# Altium schematic symbol library SparkFun-Switches.SCHLIB: 119 symbols (part 1 of 4)
Pins are listed as number, name and electrical type; pins without a type are passive.

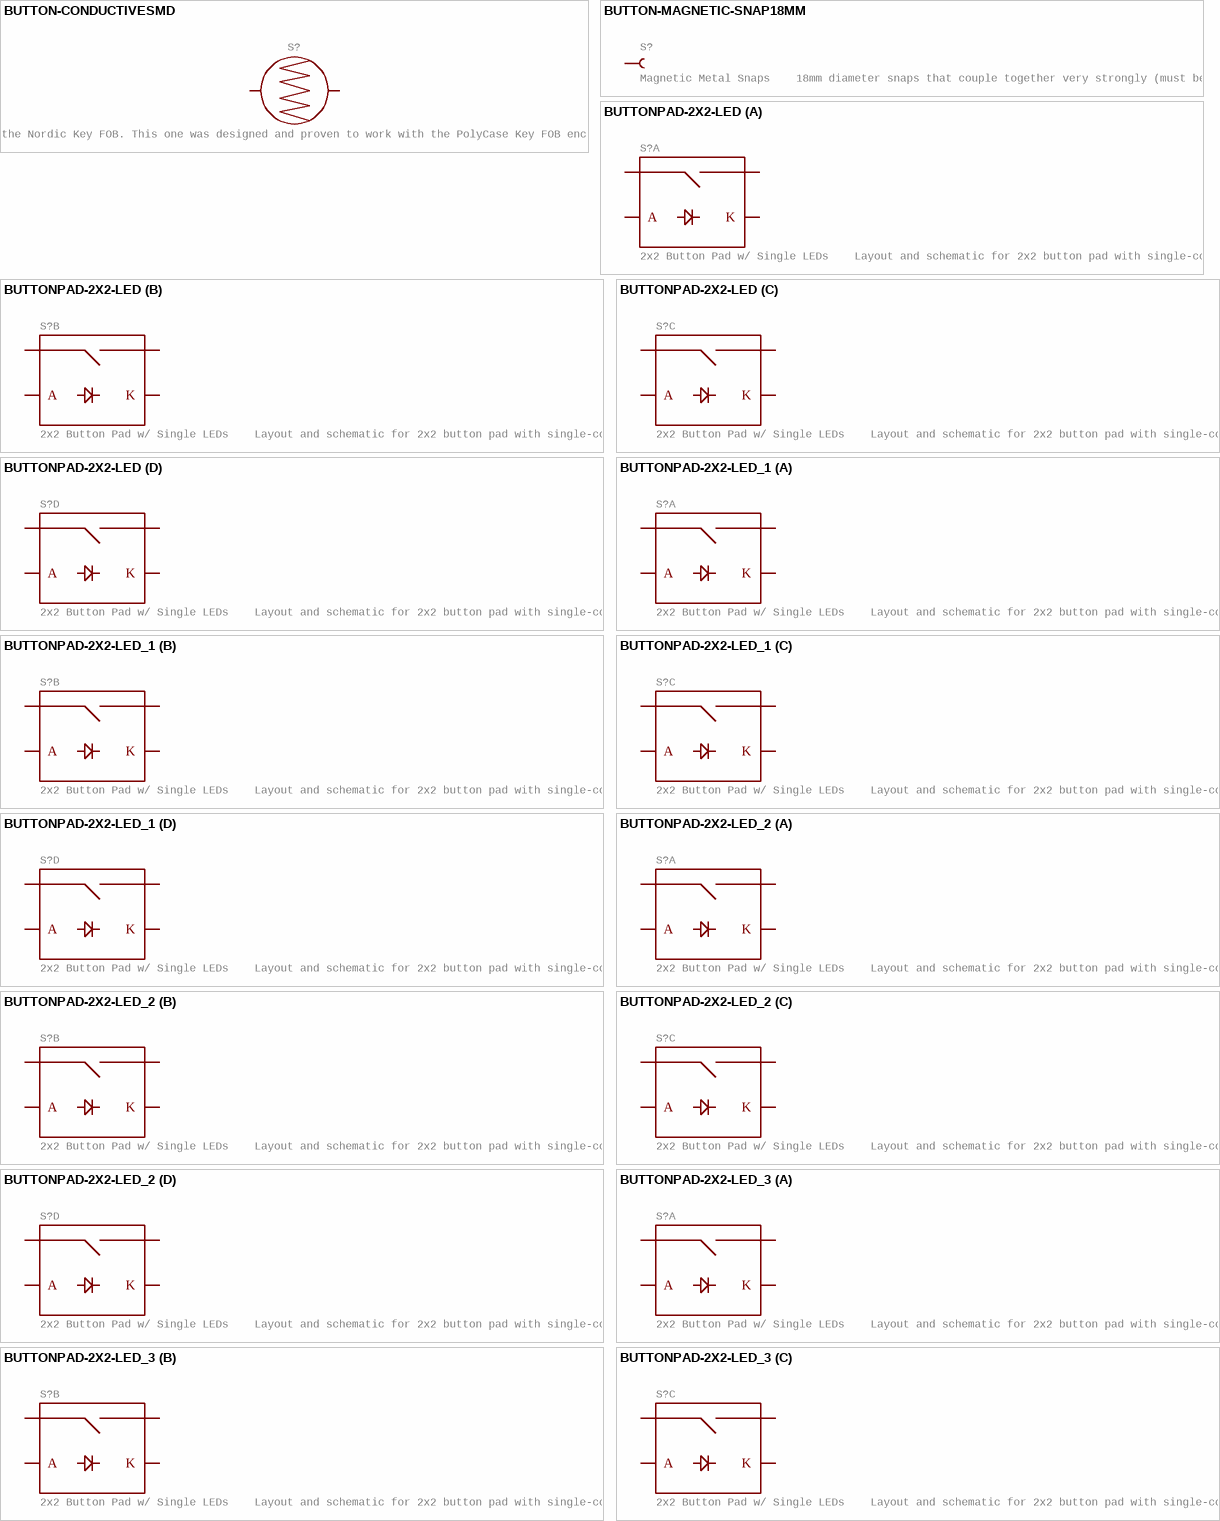
[diagram p0: symbols BUTTON-CONDUCTIVESMD to BUTTONPAD-2X2-LED_3]

## BUTTON-CONDUCTIVESMD
designator S?, comment Conductive Button    Used with rubber key pads on the Nordic Key FOB. This one was designed and proven to work with the PolyCase Key FOB enclosures. SparkFun Products  Nordic Fob (WRL-08602)
GateName_1: G$1; SymbolName_1: BUTTON-CONDUCTIVE; DeviceName: SMD; LibraryName: SparkFun-Switches; DeviceSetName: BUTTON-CONDUCTIVE; Package: BUTTON-CONDUCTIVE
footprint BUTTON-CONDUCTIVE
pins: 1, 2

## BUTTON-MAGNETIC-SNAP18MM
designator S?, comment Magnetic Metal Snaps    18mm diameter snaps that couple together very strongly (must be pried apart), rotate freely on the axis, and are electrically conductive. Overall connection resistance is less than 200 miliOhm. Snaps will couple when closer than 10mm. SparkFun Products  Magnetic Snap 18mm (WRL-08682)
GateName_1: G$1; SymbolName_1: BUTTON-MAGNETIC-SNAP; SF_SKU: DEV-08682; DeviceName: 18MM; LibraryName: SparkFun-Switches; DeviceSetName: BUTTON-MAGNETIC-SNAP; Package: BUTTON-18MM
footprint BUTTON-18MM
pins: 1 (io)

## BUTTONPAD-2X2-LED
designator S?, comment 2x2 Button Pad w/ Single LEDs    Layout and schematic for 2x2 button pad with single-color LEDs under each button. For use with the Button Pad 2x2 - LED Compatible and Button Pad 2x2 Top Bezel.   Any single-color 5mm LED should be compatible. SparkFun Products  SparkFun Simon Says - Through-Hole Soldering Kit (KIT-10547)  Button Pad 2x2 - Breakout PCB (COM-09277)
GateName_1: C1; SymbolName_1: BUTTONPAD-LED; GateName_2: C2; GateName_3: C3; GateName_4: C4; DeviceSetName: BUTTONPAD-2X2-LED; PROD_ID: COMP-08481; SF_SKU: COM-07836; SymbolName_2: BUTTONPAD-LED; SymbolName_3: BUTTONPAD-LED; SymbolName_4: BUTTONPAD-LED; LibraryName: SparkFun-Switches; Package: BUTTONPAD-2X2-SINGLE-LED
footprint BUTTONPAD-2X2-SINGLE-LED
part A pins: A1 A (io), K1 K (io), SIG1 (io), SIG2 (io)
part B pins: A2 A (io), K2 K (io), SIG3 SIG1 (io), SIG4 SIG2 (io)
part C pins: A3 A (io), K3 K (io), SIG5 SIG1 (io), SIG6 SIG2 (io)
part D pins: A4 A (io), K4 K (io), SIG7 SIG1 (io), SIG8 SIG2 (io)

## BUTTONPAD-2X2-LED_1
designator S?, comment 2x2 Button Pad w/ Single LEDs    Layout and schematic for 2x2 button pad with single-color LEDs under each button. For use with the Button Pad 2x2 - LED Compatible and Button Pad 2x2 Top Bezel.   Any single-color 5mm LED should be compatible. SparkFun Products  SparkFun Simon Says - Through-Hole Soldering Kit (KIT-10547)  Button Pad 2x2 - Breakout PCB (COM-09277)
GateName_1: C1; SymbolName_1: BUTTONPAD-LED; GateName_2: C2; GateName_3: C3; GateName_4: C4; DeviceSetName: BUTTONPAD-2X2-LED; PROD_ID: COMP-08481; SF_SKU: COM-07836; SymbolName_2: BUTTONPAD-LED; SymbolName_3: BUTTONPAD-LED; SymbolName_4: BUTTONPAD-LED; LibraryName: SparkFun-Switches; Package: BUTTONPAD-2X2-SINGLE-LED
footprint BUTTONPAD-2X2-SINGLE-LED
part A pins: A1 A (io), K1 K (io), SIG1 (io), SIG2 (io)
part B pins: A2 A (io), K2 K (io), SIG3 SIG1 (io), SIG4 SIG2 (io)
part C pins: A3 A (io), K3 K (io), SIG5 SIG1 (io), SIG6 SIG2 (io)
part D pins: A4 A (io), K4 K (io), SIG7 SIG1 (io), SIG8 SIG2 (io)

## BUTTONPAD-2X2-LED_2
designator S?, comment 2x2 Button Pad w/ Single LEDs    Layout and schematic for 2x2 button pad with single-color LEDs under each button. For use with the Button Pad 2x2 - LED Compatible and Button Pad 2x2 Top Bezel.   Any single-color 5mm LED should be compatible. SparkFun Products  SparkFun Simon Says - Through-Hole Soldering Kit (KIT-10547)  Button Pad 2x2 - Breakout PCB (COM-09277)
GateName_1: C1; SymbolName_1: BUTTONPAD-LED; GateName_2: C2; GateName_3: C3; GateName_4: C4; DeviceSetName: BUTTONPAD-2X2-LED; PROD_ID: COMP-08481; SF_SKU: COM-07836; SymbolName_2: BUTTONPAD-LED; SymbolName_3: BUTTONPAD-LED; SymbolName_4: BUTTONPAD-LED; LibraryName: SparkFun-Switches; Package: BUTTONPAD-2X2-SINGLE-LED
footprint BUTTONPAD-2X2-SINGLE-LED
part A pins: A1 A (io), K1 K (io), SIG1 (io), SIG2 (io)
part B pins: A2 A (io), K2 K (io), SIG3 SIG1 (io), SIG4 SIG2 (io)
part C pins: A3 A (io), K3 K (io), SIG5 SIG1 (io), SIG6 SIG2 (io)
part D pins: A4 A (io), K4 K (io), SIG7 SIG1 (io), SIG8 SIG2 (io)

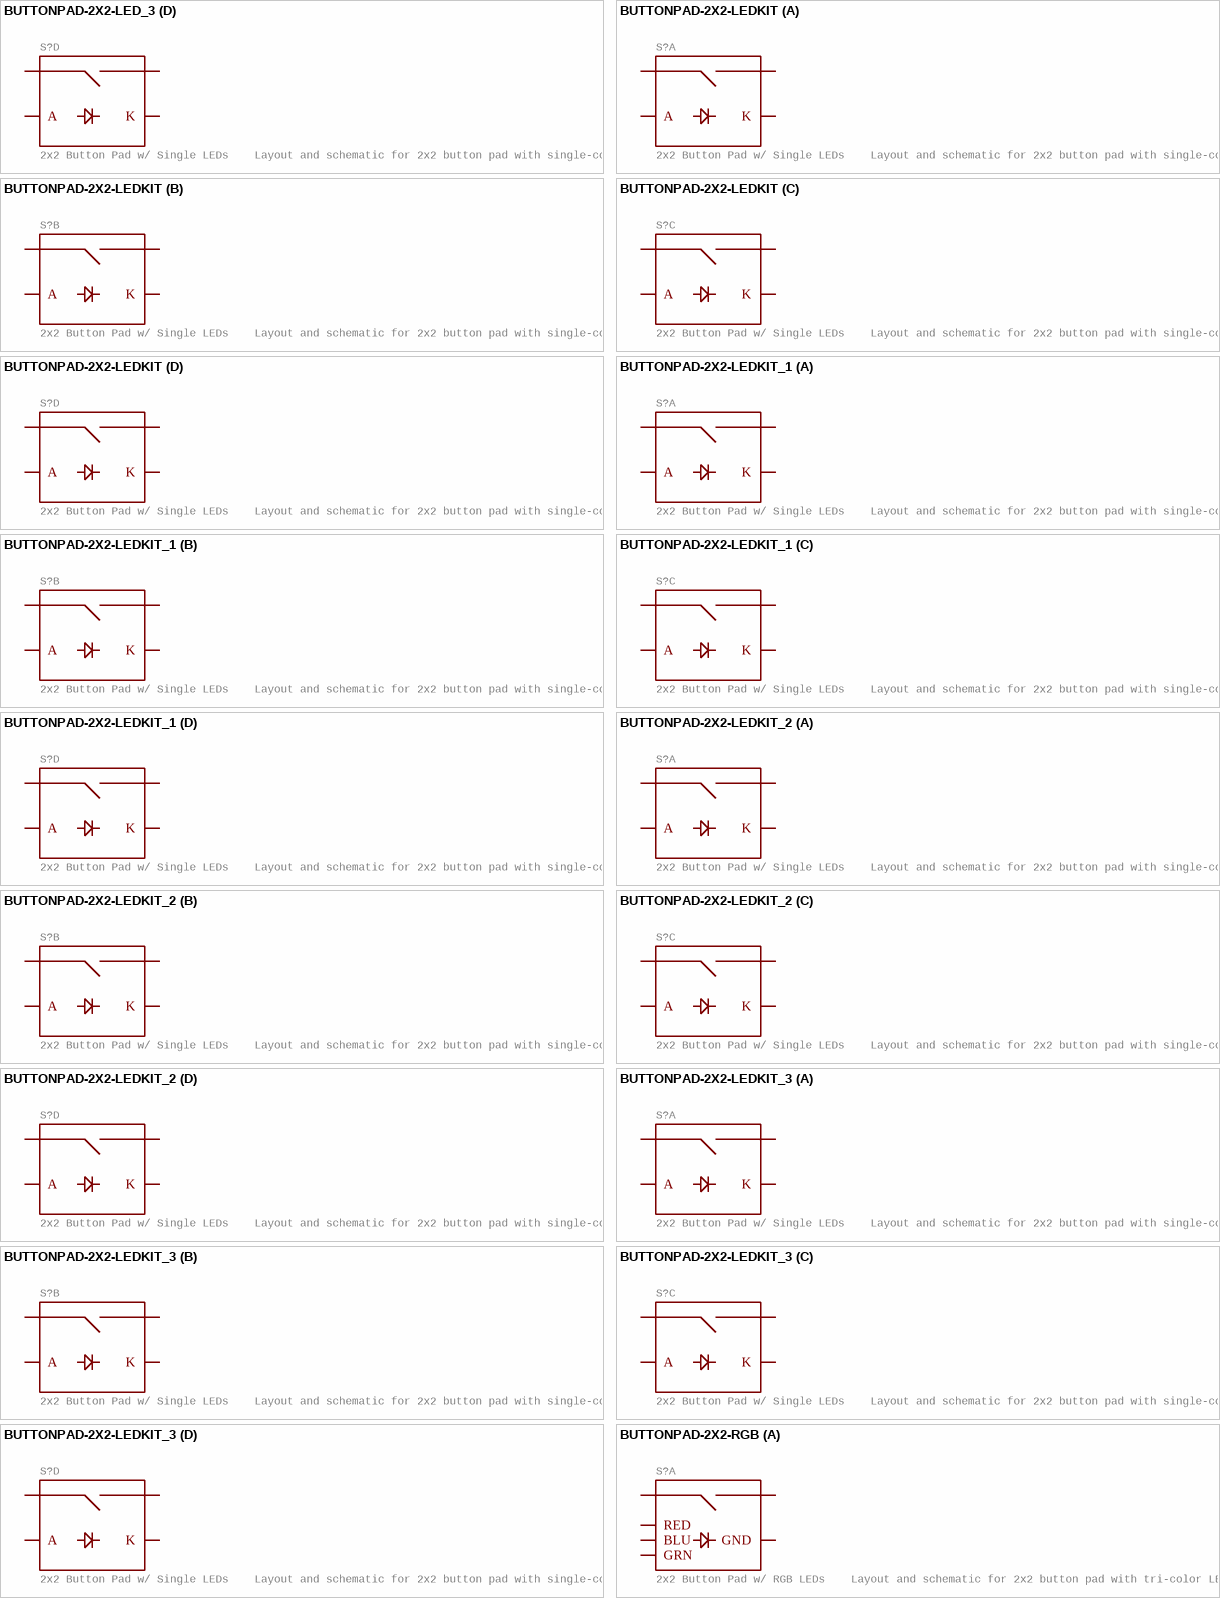
[diagram p1: symbols BUTTONPAD-2X2-LED_3 to BUTTONPAD-2X2-RGB]

## BUTTONPAD-2X2-LED_3
designator S?, comment 2x2 Button Pad w/ Single LEDs    Layout and schematic for 2x2 button pad with single-color LEDs under each button. For use with the Button Pad 2x2 - LED Compatible and Button Pad 2x2 Top Bezel.   Any single-color 5mm LED should be compatible. SparkFun Products  SparkFun Simon Says - Through-Hole Soldering Kit (KIT-10547)  Button Pad 2x2 - Breakout PCB (COM-09277)
GateName_1: C1; SymbolName_1: BUTTONPAD-LED; GateName_2: C2; GateName_3: C3; GateName_4: C4; DeviceSetName: BUTTONPAD-2X2-LED; PROD_ID: COMP-08481; SF_SKU: COM-07836; SymbolName_2: BUTTONPAD-LED; SymbolName_3: BUTTONPAD-LED; SymbolName_4: BUTTONPAD-LED; LibraryName: SparkFun-Switches; Package: BUTTONPAD-2X2-SINGLE-LED
footprint BUTTONPAD-2X2-SINGLE-LED
part A pins: A1 A (io), K1 K (io), SIG1 (io), SIG2 (io)
part B pins: A2 A (io), K2 K (io), SIG3 SIG1 (io), SIG4 SIG2 (io)
part C pins: A3 A (io), K3 K (io), SIG5 SIG1 (io), SIG6 SIG2 (io)
part D pins: A4 A (io), K4 K (io), SIG7 SIG1 (io), SIG8 SIG2 (io)

## BUTTONPAD-2X2-LEDKIT
designator S?, comment 2x2 Button Pad w/ Single LEDs    Layout and schematic for 2x2 button pad with single-color LEDs under each button. For use with the Button Pad 2x2 - LED Compatible and Button Pad 2x2 Top Bezel.   Any single-color 5mm LED should be compatible. SparkFun Products  SparkFun Simon Says - Through-Hole Soldering Kit (KIT-10547)  Button Pad 2x2 - Breakout PCB (COM-09277)
GateName_1: C1; SymbolName_1: BUTTONPAD-LED; GateName_2: C2; GateName_3: C3; GateName_4: C4; DeviceSetName: BUTTONPAD-2X2-LED; PROD_ID: COMP-08481; SF_SKU: COM-07836; SymbolName_2: BUTTONPAD-LED; SymbolName_3: BUTTONPAD-LED; SymbolName_4: BUTTONPAD-LED; DeviceName: KIT; LibraryName: SparkFun-Switches; Package: BUTTONPAD-2X2-SINGLE-LED-KIT
footprint BUTTONPAD-2X2-SINGLE-LED-KIT
part A pins: A1 A (io), K1 K (io), SIG1 (io), SIG2 (io)
part B pins: A2 A (io), K2 K (io), SIG3 SIG1 (io), SIG4 SIG2 (io)
part C pins: A3 A (io), K3 K (io), SIG5 SIG1 (io), SIG6 SIG2 (io)
part D pins: A4 A (io), K4 K (io), SIG7 SIG1 (io), SIG8 SIG2 (io)

## BUTTONPAD-2X2-LEDKIT_1
designator S?, comment 2x2 Button Pad w/ Single LEDs    Layout and schematic for 2x2 button pad with single-color LEDs under each button. For use with the Button Pad 2x2 - LED Compatible and Button Pad 2x2 Top Bezel.   Any single-color 5mm LED should be compatible. SparkFun Products  SparkFun Simon Says - Through-Hole Soldering Kit (KIT-10547)  Button Pad 2x2 - Breakout PCB (COM-09277)
GateName_1: C1; SymbolName_1: BUTTONPAD-LED; GateName_2: C2; GateName_3: C3; GateName_4: C4; DeviceSetName: BUTTONPAD-2X2-LED; PROD_ID: COMP-08481; SF_SKU: COM-07836; SymbolName_2: BUTTONPAD-LED; SymbolName_3: BUTTONPAD-LED; SymbolName_4: BUTTONPAD-LED; DeviceName: KIT; LibraryName: SparkFun-Switches; Package: BUTTONPAD-2X2-SINGLE-LED-KIT
footprint BUTTONPAD-2X2-SINGLE-LED-KIT
part A pins: A1 A (io), K1 K (io), SIG1 (io), SIG2 (io)
part B pins: A2 A (io), K2 K (io), SIG3 SIG1 (io), SIG4 SIG2 (io)
part C pins: A3 A (io), K3 K (io), SIG5 SIG1 (io), SIG6 SIG2 (io)
part D pins: A4 A (io), K4 K (io), SIG7 SIG1 (io), SIG8 SIG2 (io)

## BUTTONPAD-2X2-LEDKIT_2
designator S?, comment 2x2 Button Pad w/ Single LEDs    Layout and schematic for 2x2 button pad with single-color LEDs under each button. For use with the Button Pad 2x2 - LED Compatible and Button Pad 2x2 Top Bezel.   Any single-color 5mm LED should be compatible. SparkFun Products  SparkFun Simon Says - Through-Hole Soldering Kit (KIT-10547)  Button Pad 2x2 - Breakout PCB (COM-09277)
GateName_1: C1; SymbolName_1: BUTTONPAD-LED; GateName_2: C2; GateName_3: C3; GateName_4: C4; DeviceSetName: BUTTONPAD-2X2-LED; PROD_ID: COMP-08481; SF_SKU: COM-07836; SymbolName_2: BUTTONPAD-LED; SymbolName_3: BUTTONPAD-LED; SymbolName_4: BUTTONPAD-LED; DeviceName: KIT; LibraryName: SparkFun-Switches; Package: BUTTONPAD-2X2-SINGLE-LED-KIT
footprint BUTTONPAD-2X2-SINGLE-LED-KIT
part A pins: A1 A (io), K1 K (io), SIG1 (io), SIG2 (io)
part B pins: A2 A (io), K2 K (io), SIG3 SIG1 (io), SIG4 SIG2 (io)
part C pins: A3 A (io), K3 K (io), SIG5 SIG1 (io), SIG6 SIG2 (io)
part D pins: A4 A (io), K4 K (io), SIG7 SIG1 (io), SIG8 SIG2 (io)

## BUTTONPAD-2X2-LEDKIT_3
designator S?, comment 2x2 Button Pad w/ Single LEDs    Layout and schematic for 2x2 button pad with single-color LEDs under each button. For use with the Button Pad 2x2 - LED Compatible and Button Pad 2x2 Top Bezel.   Any single-color 5mm LED should be compatible. SparkFun Products  SparkFun Simon Says - Through-Hole Soldering Kit (KIT-10547)  Button Pad 2x2 - Breakout PCB (COM-09277)
GateName_1: C1; SymbolName_1: BUTTONPAD-LED; GateName_2: C2; GateName_3: C3; GateName_4: C4; DeviceSetName: BUTTONPAD-2X2-LED; PROD_ID: COMP-08481; SF_SKU: COM-07836; SymbolName_2: BUTTONPAD-LED; SymbolName_3: BUTTONPAD-LED; SymbolName_4: BUTTONPAD-LED; DeviceName: KIT; LibraryName: SparkFun-Switches; Package: BUTTONPAD-2X2-SINGLE-LED-KIT
footprint BUTTONPAD-2X2-SINGLE-LED-KIT
part A pins: A1 A (io), K1 K (io), SIG1 (io), SIG2 (io)
part B pins: A2 A (io), K2 K (io), SIG3 SIG1 (io), SIG4 SIG2 (io)
part C pins: A3 A (io), K3 K (io), SIG5 SIG1 (io), SIG6 SIG2 (io)
part D pins: A4 A (io), K4 K (io), SIG7 SIG1 (io), SIG8 SIG2 (io)

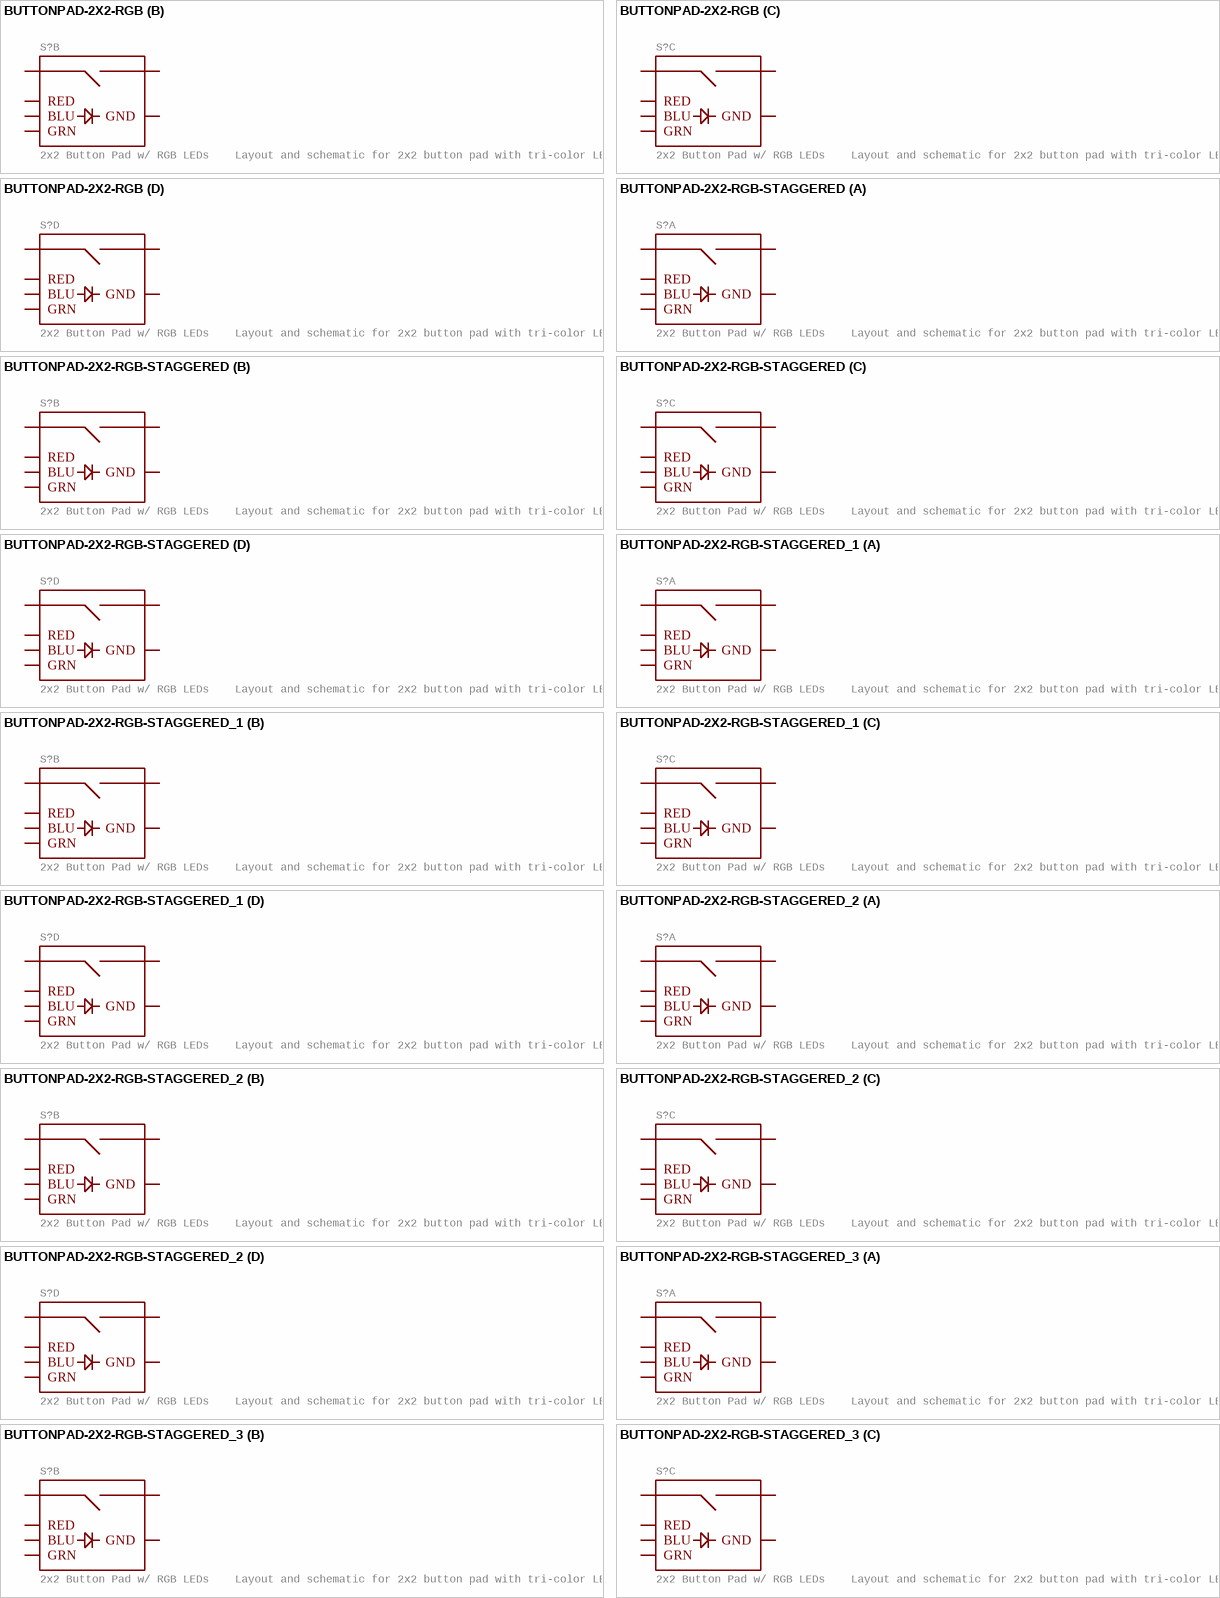
[diagram p2: symbols BUTTONPAD-2X2-RGB to BUTTONPAD-2X2-RGB-STAGGERED_3]

## BUTTONPAD-2X2-RGB
designator S?, comment 2x2 Button Pad w/ RGB LEDs    Layout and schematic for 2x2 button pad with tri-color LEDs under each button. For use with the Button Pad 2x2 - LED Compatible and Button Pad 2x2 Top Bezel.   Any RGB 5mm LED should be compatible. SparkFun Products  SparkFun Simon Says - Through-Hole Soldering Kit (KIT-10547)  Button Pad 2x2 - Breakout PCB (COM-09277)
GateName_1: -C1; SymbolName_1: BUTTONPAD-RGB; GateName_2: -C2; GateName_3: -C3; GateName_4: -C4; DeviceSetName: BUTTONPAD-2X2-RGB; PROD_ID: COMP-08481; SF_SKU: COM-07836; SymbolName_2: BUTTONPAD-RGB; SymbolName_3: BUTTONPAD-RGB; SymbolName_4: BUTTONPAD-RGB; LibraryName: SparkFun-Switches; Package: BUTTONPAD-2X2
footprint BUTTONPAD-2X2
part A pins: BLU1 BLU (io), GND1 GND (io), GRN1 GRN (io), RED1 RED (io), SIG1 (io), SIG2 (io)
part B pins: BLU2 BLU (io), GND2 GND (io), GRN2 GRN (io), RED2 RED (io), SIG3 SIG1 (io), SIG4 SIG2 (io)
part C pins: BLU3 BLU (io), GND3 GND (io), GRN3 GRN (io), RED3 RED (io), SIG5 SIG1 (io), SIG6 SIG2 (io)
part D pins: BLU4 BLU (io), GND4 GND (io), GRN4 GRN (io), RED4 RED (io), SIG7 SIG1 (io), SIG8 SIG2 (io)

## BUTTONPAD-2X2-RGB-STAGGERED
designator S?, comment 2x2 Button Pad w/ RGB LEDs    Layout and schematic for 2x2 button pad with tri-color LEDs under each button. For use with the Button Pad 2x2 - LED Compatible and Button Pad 2x2 Top Bezel.   Any RGB 5mm LED should be compatible. SparkFun Products  SparkFun Simon Says - Through-Hole Soldering Kit (KIT-10547)  Button Pad 2x2 - Breakout PCB (COM-09277)
GateName_1: -C1; SymbolName_1: BUTTONPAD-RGB; GateName_2: -C2; GateName_3: -C3; GateName_4: -C4; DeviceName: -STAGGERED; DeviceSetName: BUTTONPAD-2X2-RGB; PROD_ID: COMP-08481; SF_SKU: COM-07836; SymbolName_2: BUTTONPAD-RGB; SymbolName_3: BUTTONPAD-RGB; SymbolName_4: BUTTONPAD-RGB; LibraryName: SparkFun-Switches; Package: BUTTONPAD-2X2-STAGGERED
footprint BUTTONPAD-2X2-STAGGERED
part A pins: BLU1 BLU (io), GND1 GND (io), GRN1 GRN (io), RED1 RED (io), SIG1 (io), SIG2 (io)
part B pins: BLU2 BLU (io), GND2 GND (io), GRN2 GRN (io), RED2 RED (io), SIG3 SIG1 (io), SIG4 SIG2 (io)
part C pins: BLU3 BLU (io), GND3 GND (io), GRN3 GRN (io), RED3 RED (io), SIG5 SIG1 (io), SIG6 SIG2 (io)
part D pins: BLU4 BLU (io), GND4 GND (io), GRN4 GRN (io), RED4 RED (io), SIG7 SIG1 (io), SIG8 SIG2 (io)

## BUTTONPAD-2X2-RGB-STAGGERED_1
designator S?, comment 2x2 Button Pad w/ RGB LEDs    Layout and schematic for 2x2 button pad with tri-color LEDs under each button. For use with the Button Pad 2x2 - LED Compatible and Button Pad 2x2 Top Bezel.   Any RGB 5mm LED should be compatible. SparkFun Products  SparkFun Simon Says - Through-Hole Soldering Kit (KIT-10547)  Button Pad 2x2 - Breakout PCB (COM-09277)
GateName_1: -C1; SymbolName_1: BUTTONPAD-RGB; GateName_2: -C2; GateName_3: -C3; GateName_4: -C4; DeviceName: -STAGGERED; DeviceSetName: BUTTONPAD-2X2-RGB; PROD_ID: COMP-08481; SF_SKU: COM-07836; SymbolName_2: BUTTONPAD-RGB; SymbolName_3: BUTTONPAD-RGB; SymbolName_4: BUTTONPAD-RGB; LibraryName: SparkFun-Switches; Package: BUTTONPAD-2X2-STAGGERED
footprint BUTTONPAD-2X2-STAGGERED
part A pins: BLU1 BLU (io), GND1 GND (io), GRN1 GRN (io), RED1 RED (io), SIG1 (io), SIG2 (io)
part B pins: BLU2 BLU (io), GND2 GND (io), GRN2 GRN (io), RED2 RED (io), SIG3 SIG1 (io), SIG4 SIG2 (io)
part C pins: BLU3 BLU (io), GND3 GND (io), GRN3 GRN (io), RED3 RED (io), SIG5 SIG1 (io), SIG6 SIG2 (io)
part D pins: BLU4 BLU (io), GND4 GND (io), GRN4 GRN (io), RED4 RED (io), SIG7 SIG1 (io), SIG8 SIG2 (io)

## BUTTONPAD-2X2-RGB-STAGGERED_2
designator S?, comment 2x2 Button Pad w/ RGB LEDs    Layout and schematic for 2x2 button pad with tri-color LEDs under each button. For use with the Button Pad 2x2 - LED Compatible and Button Pad 2x2 Top Bezel.   Any RGB 5mm LED should be compatible. SparkFun Products  SparkFun Simon Says - Through-Hole Soldering Kit (KIT-10547)  Button Pad 2x2 - Breakout PCB (COM-09277)
GateName_1: -C1; SymbolName_1: BUTTONPAD-RGB; GateName_2: -C2; GateName_3: -C3; GateName_4: -C4; DeviceName: -STAGGERED; DeviceSetName: BUTTONPAD-2X2-RGB; PROD_ID: COMP-08481; SF_SKU: COM-07836; SymbolName_2: BUTTONPAD-RGB; SymbolName_3: BUTTONPAD-RGB; SymbolName_4: BUTTONPAD-RGB; LibraryName: SparkFun-Switches; Package: BUTTONPAD-2X2-STAGGERED
footprint BUTTONPAD-2X2-STAGGERED
part A pins: BLU1 BLU (io), GND1 GND (io), GRN1 GRN (io), RED1 RED (io), SIG1 (io), SIG2 (io)
part B pins: BLU2 BLU (io), GND2 GND (io), GRN2 GRN (io), RED2 RED (io), SIG3 SIG1 (io), SIG4 SIG2 (io)
part C pins: BLU3 BLU (io), GND3 GND (io), GRN3 GRN (io), RED3 RED (io), SIG5 SIG1 (io), SIG6 SIG2 (io)
part D pins: BLU4 BLU (io), GND4 GND (io), GRN4 GRN (io), RED4 RED (io), SIG7 SIG1 (io), SIG8 SIG2 (io)

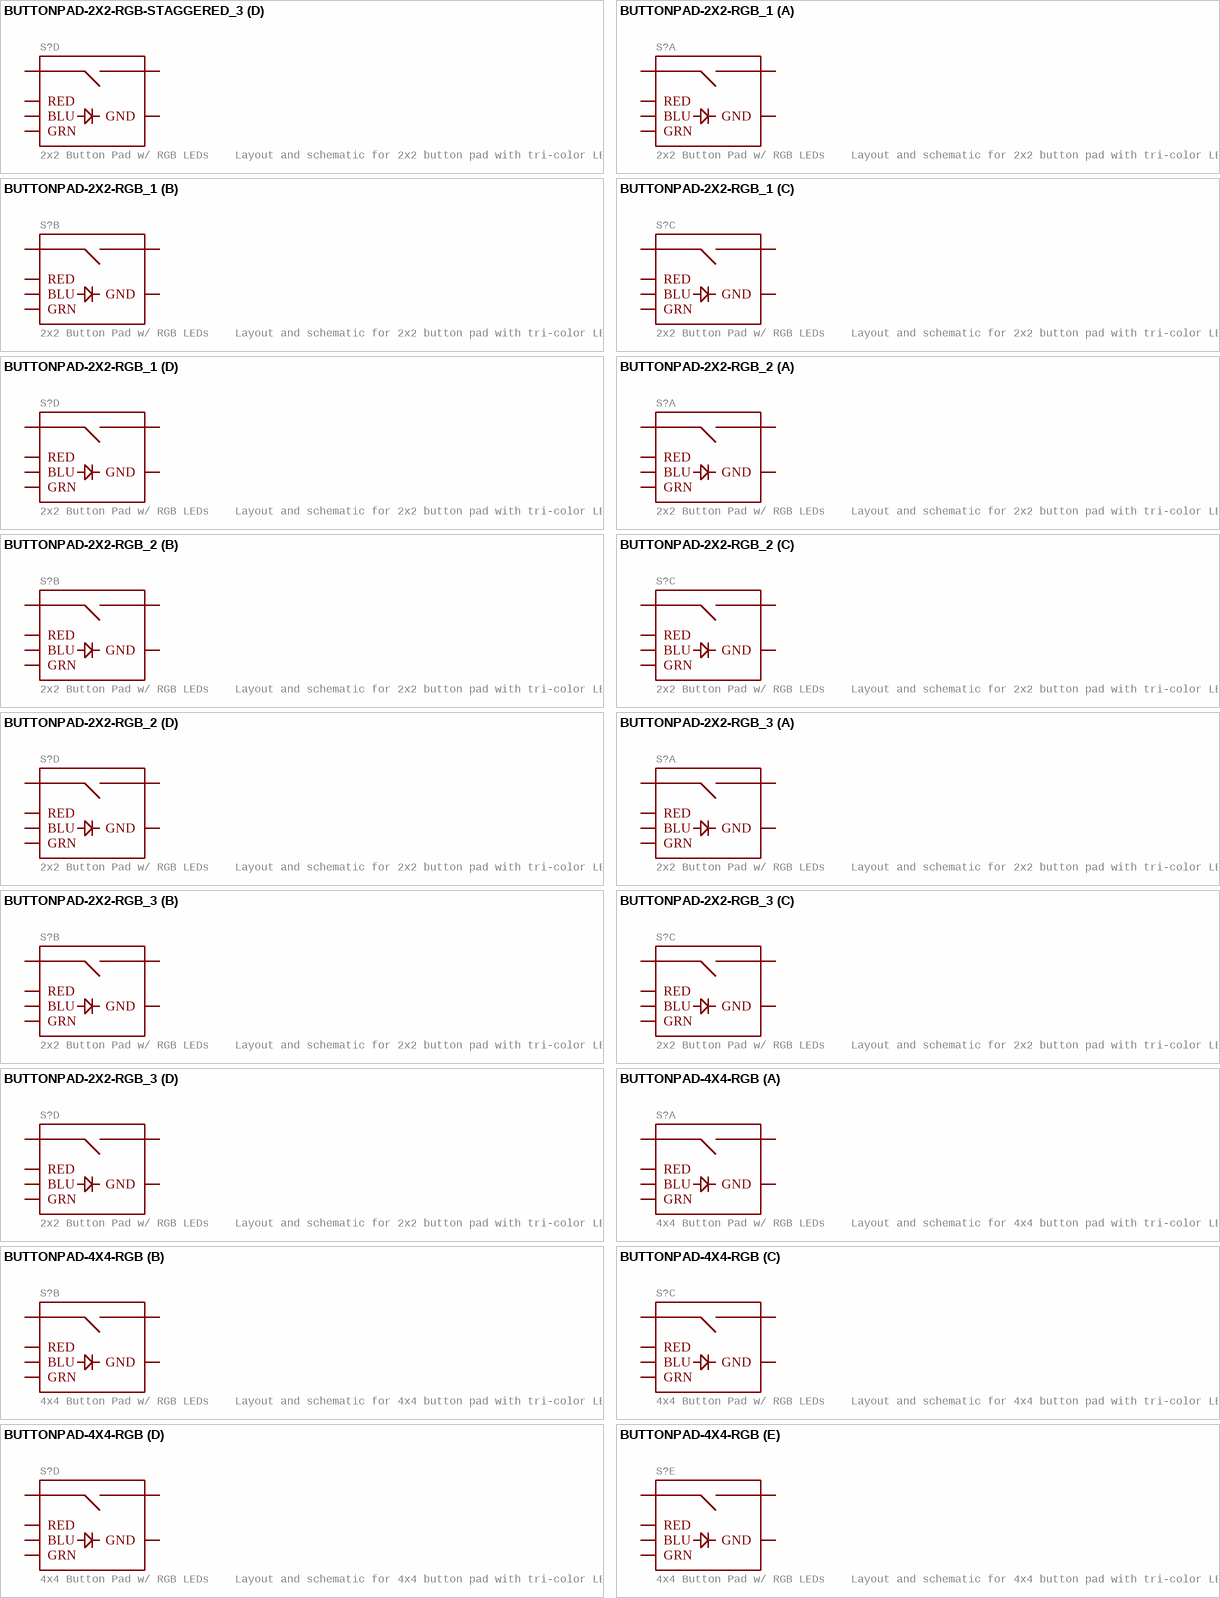
[diagram p3: symbols BUTTONPAD-2X2-RGB-STAGGERED_3 to BUTTONPAD-4X4-RGB]

## BUTTONPAD-2X2-RGB-STAGGERED_3
designator S?, comment 2x2 Button Pad w/ RGB LEDs    Layout and schematic for 2x2 button pad with tri-color LEDs under each button. For use with the Button Pad 2x2 - LED Compatible and Button Pad 2x2 Top Bezel.   Any RGB 5mm LED should be compatible. SparkFun Products  SparkFun Simon Says - Through-Hole Soldering Kit (KIT-10547)  Button Pad 2x2 - Breakout PCB (COM-09277)
GateName_1: -C1; SymbolName_1: BUTTONPAD-RGB; GateName_2: -C2; GateName_3: -C3; GateName_4: -C4; DeviceName: -STAGGERED; DeviceSetName: BUTTONPAD-2X2-RGB; PROD_ID: COMP-08481; SF_SKU: COM-07836; SymbolName_2: BUTTONPAD-RGB; SymbolName_3: BUTTONPAD-RGB; SymbolName_4: BUTTONPAD-RGB; LibraryName: SparkFun-Switches; Package: BUTTONPAD-2X2-STAGGERED
footprint BUTTONPAD-2X2-STAGGERED
part A pins: BLU1 BLU (io), GND1 GND (io), GRN1 GRN (io), RED1 RED (io), SIG1 (io), SIG2 (io)
part B pins: BLU2 BLU (io), GND2 GND (io), GRN2 GRN (io), RED2 RED (io), SIG3 SIG1 (io), SIG4 SIG2 (io)
part C pins: BLU3 BLU (io), GND3 GND (io), GRN3 GRN (io), RED3 RED (io), SIG5 SIG1 (io), SIG6 SIG2 (io)
part D pins: BLU4 BLU (io), GND4 GND (io), GRN4 GRN (io), RED4 RED (io), SIG7 SIG1 (io), SIG8 SIG2 (io)

## BUTTONPAD-2X2-RGB_1
designator S?, comment 2x2 Button Pad w/ RGB LEDs    Layout and schematic for 2x2 button pad with tri-color LEDs under each button. For use with the Button Pad 2x2 - LED Compatible and Button Pad 2x2 Top Bezel.   Any RGB 5mm LED should be compatible. SparkFun Products  SparkFun Simon Says - Through-Hole Soldering Kit (KIT-10547)  Button Pad 2x2 - Breakout PCB (COM-09277)
GateName_1: -C1; SymbolName_1: BUTTONPAD-RGB; GateName_2: -C2; GateName_3: -C3; GateName_4: -C4; DeviceSetName: BUTTONPAD-2X2-RGB; PROD_ID: COMP-08481; SF_SKU: COM-07836; SymbolName_2: BUTTONPAD-RGB; SymbolName_3: BUTTONPAD-RGB; SymbolName_4: BUTTONPAD-RGB; LibraryName: SparkFun-Switches; Package: BUTTONPAD-2X2
footprint BUTTONPAD-2X2
part A pins: BLU1 BLU (io), GND1 GND (io), GRN1 GRN (io), RED1 RED (io), SIG1 (io), SIG2 (io)
part B pins: BLU2 BLU (io), GND2 GND (io), GRN2 GRN (io), RED2 RED (io), SIG3 SIG1 (io), SIG4 SIG2 (io)
part C pins: BLU3 BLU (io), GND3 GND (io), GRN3 GRN (io), RED3 RED (io), SIG5 SIG1 (io), SIG6 SIG2 (io)
part D pins: BLU4 BLU (io), GND4 GND (io), GRN4 GRN (io), RED4 RED (io), SIG7 SIG1 (io), SIG8 SIG2 (io)

## BUTTONPAD-2X2-RGB_2
designator S?, comment 2x2 Button Pad w/ RGB LEDs    Layout and schematic for 2x2 button pad with tri-color LEDs under each button. For use with the Button Pad 2x2 - LED Compatible and Button Pad 2x2 Top Bezel.   Any RGB 5mm LED should be compatible. SparkFun Products  SparkFun Simon Says - Through-Hole Soldering Kit (KIT-10547)  Button Pad 2x2 - Breakout PCB (COM-09277)
GateName_1: -C1; SymbolName_1: BUTTONPAD-RGB; GateName_2: -C2; GateName_3: -C3; GateName_4: -C4; DeviceSetName: BUTTONPAD-2X2-RGB; PROD_ID: COMP-08481; SF_SKU: COM-07836; SymbolName_2: BUTTONPAD-RGB; SymbolName_3: BUTTONPAD-RGB; SymbolName_4: BUTTONPAD-RGB; LibraryName: SparkFun-Switches; Package: BUTTONPAD-2X2
footprint BUTTONPAD-2X2
part A pins: BLU1 BLU (io), GND1 GND (io), GRN1 GRN (io), RED1 RED (io), SIG1 (io), SIG2 (io)
part B pins: BLU2 BLU (io), GND2 GND (io), GRN2 GRN (io), RED2 RED (io), SIG3 SIG1 (io), SIG4 SIG2 (io)
part C pins: BLU3 BLU (io), GND3 GND (io), GRN3 GRN (io), RED3 RED (io), SIG5 SIG1 (io), SIG6 SIG2 (io)
part D pins: BLU4 BLU (io), GND4 GND (io), GRN4 GRN (io), RED4 RED (io), SIG7 SIG1 (io), SIG8 SIG2 (io)

## BUTTONPAD-2X2-RGB_3
designator S?, comment 2x2 Button Pad w/ RGB LEDs    Layout and schematic for 2x2 button pad with tri-color LEDs under each button. For use with the Button Pad 2x2 - LED Compatible and Button Pad 2x2 Top Bezel.   Any RGB 5mm LED should be compatible. SparkFun Products  SparkFun Simon Says - Through-Hole Soldering Kit (KIT-10547)  Button Pad 2x2 - Breakout PCB (COM-09277)
GateName_1: -C1; SymbolName_1: BUTTONPAD-RGB; GateName_2: -C2; GateName_3: -C3; GateName_4: -C4; DeviceSetName: BUTTONPAD-2X2-RGB; PROD_ID: COMP-08481; SF_SKU: COM-07836; SymbolName_2: BUTTONPAD-RGB; SymbolName_3: BUTTONPAD-RGB; SymbolName_4: BUTTONPAD-RGB; LibraryName: SparkFun-Switches; Package: BUTTONPAD-2X2
footprint BUTTONPAD-2X2
part A pins: BLU1 BLU (io), GND1 GND (io), GRN1 GRN (io), RED1 RED (io), SIG1 (io), SIG2 (io)
part B pins: BLU2 BLU (io), GND2 GND (io), GRN2 GRN (io), RED2 RED (io), SIG3 SIG1 (io), SIG4 SIG2 (io)
part C pins: BLU3 BLU (io), GND3 GND (io), GRN3 GRN (io), RED3 RED (io), SIG5 SIG1 (io), SIG6 SIG2 (io)
part D pins: BLU4 BLU (io), GND4 GND (io), GRN4 GRN (io), RED4 RED (io), SIG7 SIG1 (io), SIG8 SIG2 (io)

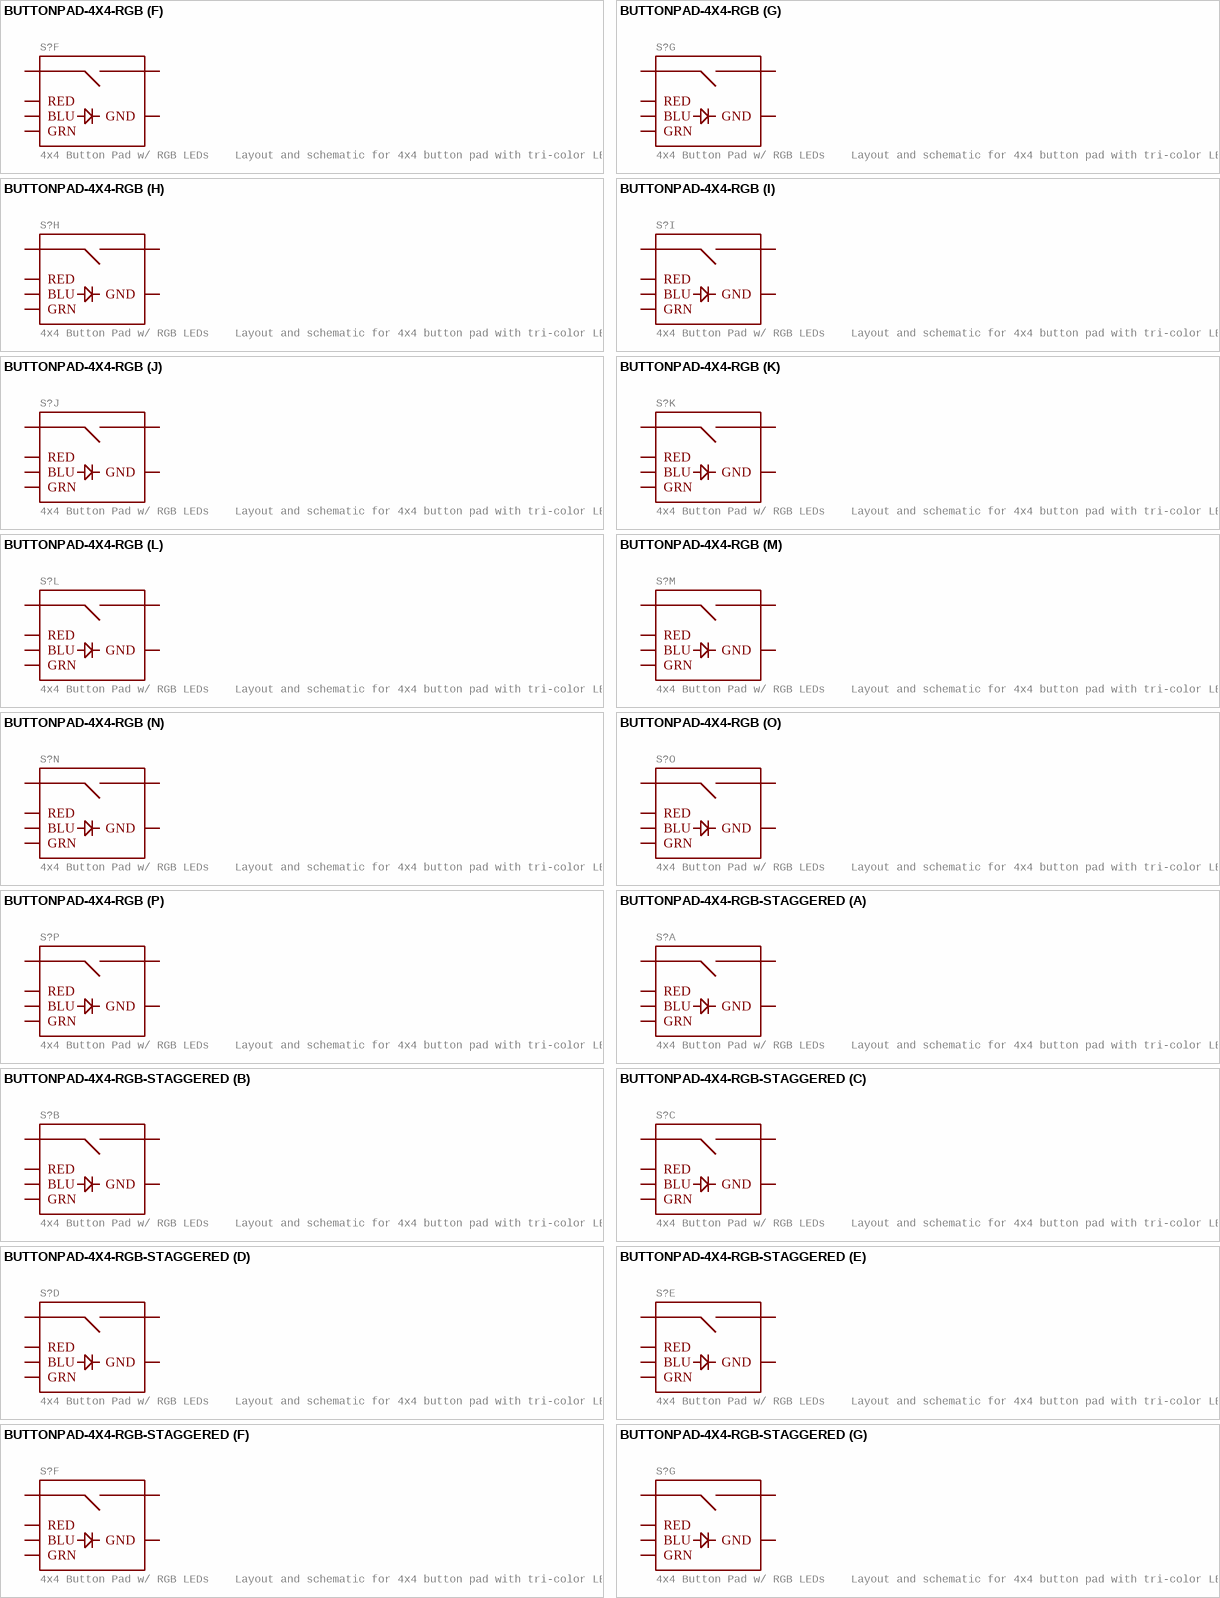
[diagram p4: symbols BUTTONPAD-4X4-RGB to BUTTONPAD-4X4-RGB-STAGGERED]

## BUTTONPAD-4X4-RGB
designator S?, comment 4x4 Button Pad w/ RGB LEDs    Layout and schematic for 4x4 button pad with tri-color LEDs under each button. For use with the 4x Button Pad 2x2 - LED Compatible and 4x Button Pad 2x2 Top Bezel.   Any RGB 5mm LED should be compatible. SparkFun Products  SparkFun Simon Says - Through-Hole Soldering Kit (KIT-10547)  Button Pad 2x2 - Breakout PCB (COM-09277)
GateName_1: G$0; SymbolName_1: BUTTONPAD-RGB; GateName_2: G$1; GateName_3: G$2; GateName_4: G$3; GateName_5: G$4; GateName_6: G$5; GateName_7: G$6; GateName_8: G$7; GateName_9: G$8; GateName_10: G$9; GateName_11: G$10; GateName_12: G$11; GateName_13: G$12; GateName_14: G$13; GateName_15: G$14; GateName_16: G$15; DeviceSetName: BUTTONPAD-4X4-RGB; PROD_ID: COMP-08481; SF_SKU: COM-07836; SymbolName_2: BUTTONPAD-RGB; SymbolName_3: BUTTONPAD-RGB; SymbolName_4: BUTTONPAD-RGB; SymbolName_5: BUTTONPAD-RGB; SymbolName_6: BUTTONPAD-RGB; SymbolName_7: BUTTONPAD-RGB; SymbolName_8: BUTTONPAD-RGB; SymbolName_9: BUTTONPAD-RGB; SymbolName_10: BUTTONPAD-RGB; SymbolName_11: BUTTONPAD-RGB; SymbolName_12: BUTTONPAD-RGB; SymbolName_13: BUTTONPAD-RGB; SymbolName_14: BUTTONPAD-RGB; SymbolName_15: BUTTONPAD-RGB; SymbolName_16: BUTTONPAD-RGB; LibraryName: SparkFun-Switches; Package: BUTTONPAD-4X4
footprint BUTTONPAD-4X4
part A pins: BLU0 BLU (io), GND0 GND (io), GRN0 GRN (io), RED0 RED (io), SIG0 SIG1 (io), SIG1 SIG2 (io)
part B pins: BLU1 BLU (io), GND1 GND (io), GRN1 GRN (io), RED1 RED (io), SIG2 SIG1 (io), SIG3 SIG2 (io)
part C pins: BLU2 BLU (io), GND2 GND (io), GRN2 GRN (io), RED2 RED (io), SIG4 SIG1 (io), SIG5 SIG2 (io)
part D pins: BLU3 BLU (io), GND3 GND (io), GRN3 GRN (io), RED3 RED (io), SIG6 SIG1 (io), SIG7 SIG2 (io)
part E pins: BLU4 BLU (io), GND4 GND (io), GRN4 GRN (io), RED4 RED (io), SIG8 SIG1 (io), SIG9 SIG2 (io)
part F pins: BLU5 BLU (io), GND5 GND (io), GRN6 GRN (io), RED5 RED (io), SIG10 SIG1 (io), SIG11 SIG2 (io)
part G pins: BLU6 BLU (io), GND6 GND (io), GRN5 GRN (io), RED6 RED (io), SIG12 SIG1 (io), SIG13 SIG2 (io)
part H pins: BLU7 BLU (io), GND7 GND (io), GRN7 GRN (io), RED7 RED (io), SIG14 SIG1 (io), SIG15 SIG2 (io)
part I pins: BLU8 BLU (io), GND8 GND (io), GRN8 GRN (io), RED8 RED (io), SIG16 SIG1 (io), SIG17 SIG2 (io)
part J pins: BLU9 BLU (io), GND9 GND (io), GRN9 GRN (io), RED9 RED (io), SIG18 SIG1 (io), SIG19 SIG2 (io)
part K pins: BLU10 BLU (io), GND10 GND (io), GRN10 GRN (io), RED10 RED (io), SIG20 SIG1 (io), SIG21 SIG2 (io)
part L pins: BLU11 BLU (io), GND11 GND (io), GRN11 GRN (io), RED11 RED (io), SIG22 SIG1 (io), SIG23 SIG2 (io)
part M pins: BLU12 BLU (io), GND12 GND (io), GRN12 GRN (io), RED12 RED (io), SIG24 SIG1 (io), SIG25 SIG2 (io)
part N pins: BLU13 BLU (io), GND13 GND (io), GRN13 GRN (io), RED13 RED (io), SIG26 SIG1 (io), SIG27 SIG2 (io)
part O pins: BLU14 BLU (io), GND14 GND (io), GRN14 GRN (io), RED14 RED (io), SIG28 SIG1 (io), SIG29 SIG2 (io)
part P pins: BLU15 BLU (io), GND15 GND (io), GRN15 GRN (io), RED15 RED (io), SIG30 SIG1 (io), SIG31 SIG2 (io)

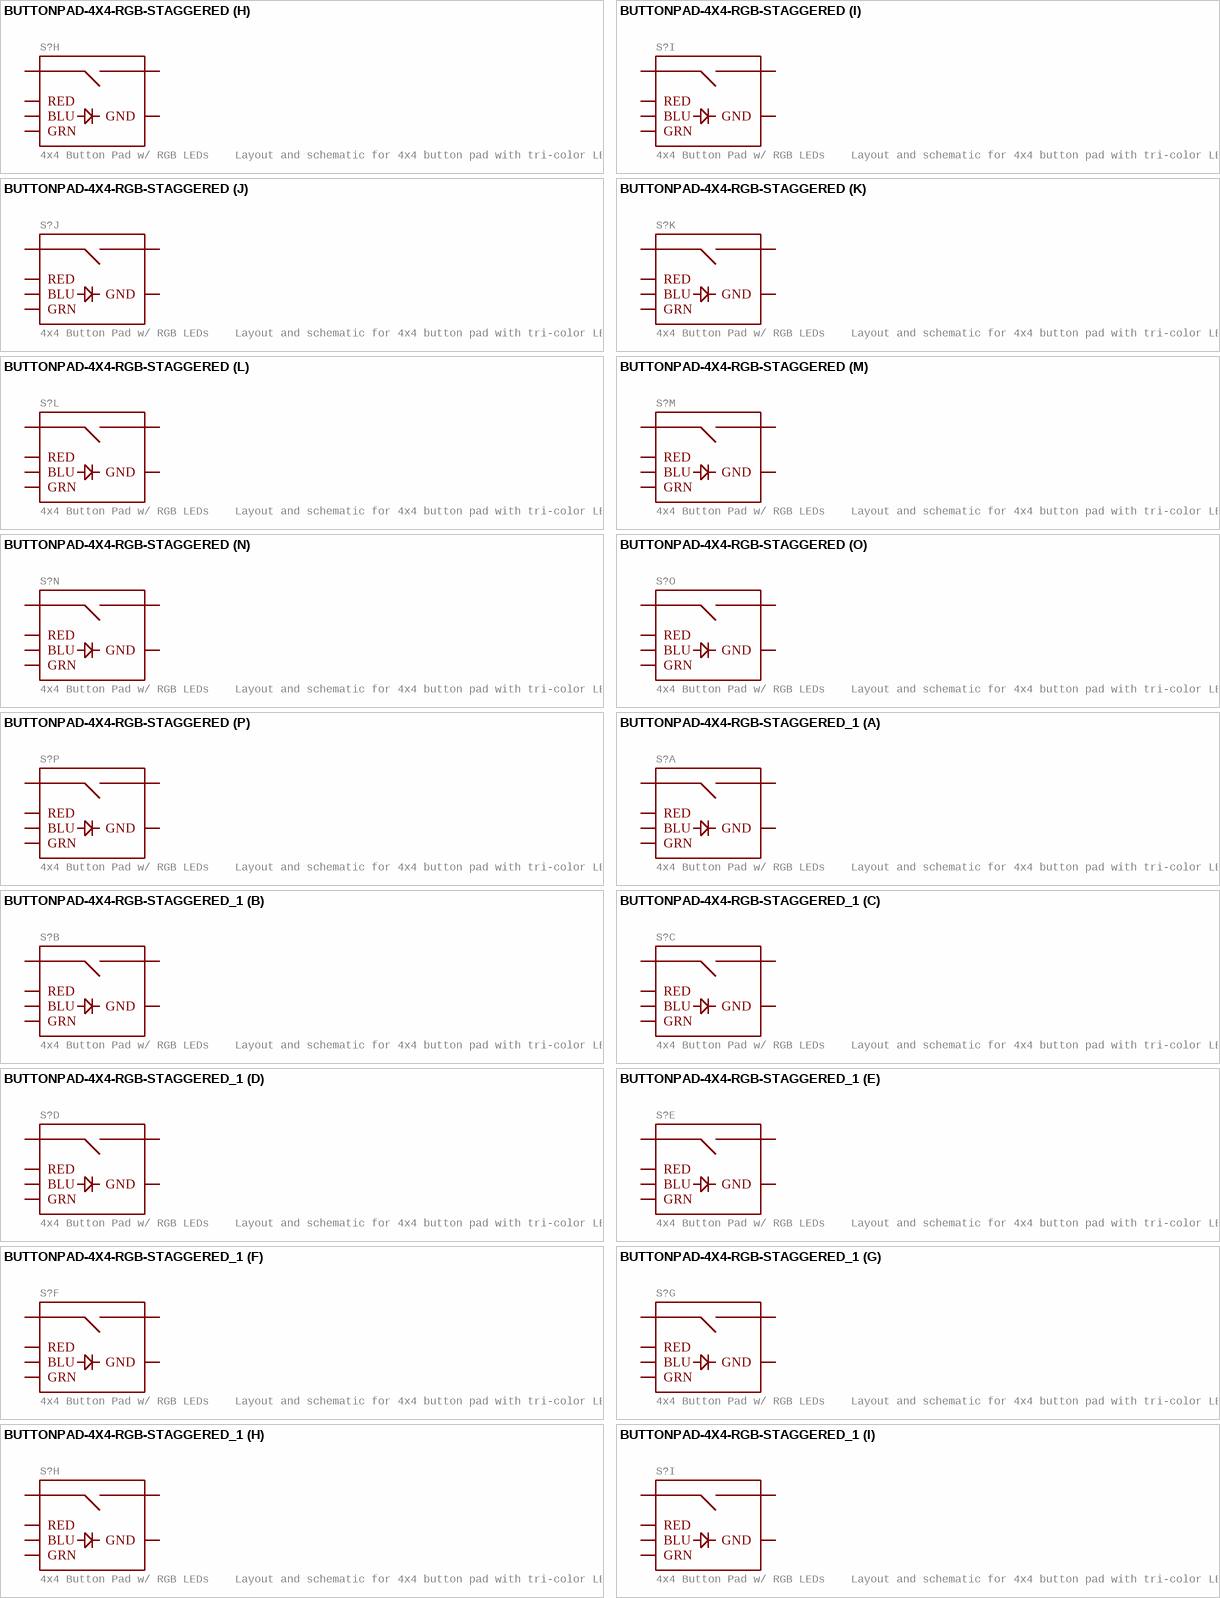
[diagram p5: symbols BUTTONPAD-4X4-RGB-STAGGERED to BUTTONPAD-4X4-RGB-STAGGERED_1]

## BUTTONPAD-4X4-RGB-STAGGERED
designator S?, comment 4x4 Button Pad w/ RGB LEDs    Layout and schematic for 4x4 button pad with tri-color LEDs under each button. For use with the 4x Button Pad 2x2 - LED Compatible and 4x Button Pad 2x2 Top Bezel.   Any RGB 5mm LED should be compatible. SparkFun Products  SparkFun Simon Says - Through-Hole Soldering Kit (KIT-10547)  Button Pad 2x2 - Breakout PCB (COM-09277)
GateName_1: G$0; SymbolName_1: BUTTONPAD-RGB; GateName_2: G$1; GateName_3: G$2; GateName_4: G$3; GateName_5: G$4; GateName_6: G$5; GateName_7: G$6; GateName_8: G$7; GateName_9: G$8; GateName_10: G$9; GateName_11: G$10; GateName_12: G$11; GateName_13: G$12; GateName_14: G$13; GateName_15: G$14; GateName_16: G$15; DeviceName: -STAGGERED; DeviceSetName: BUTTONPAD-4X4-RGB; PROD_ID: COMP-08481; SF_SKU: COM-07836; SymbolName_2: BUTTONPAD-RGB; SymbolName_3: BUTTONPAD-RGB; SymbolName_4: BUTTONPAD-RGB; SymbolName_5: BUTTONPAD-RGB; SymbolName_6: BUTTONPAD-RGB; SymbolName_7: BUTTONPAD-RGB; SymbolName_8: BUTTONPAD-RGB; SymbolName_9: BUTTONPAD-RGB; SymbolName_10: BUTTONPAD-RGB; SymbolName_11: BUTTONPAD-RGB; SymbolName_12: BUTTONPAD-RGB; SymbolName_13: BUTTONPAD-RGB; SymbolName_14: BUTTONPAD-RGB; SymbolName_15: BUTTONPAD-RGB; SymbolName_16: BUTTONPAD-RGB; LibraryName: SparkFun-Switches; Package: BUTTONPAD-4X4-STAGGERED
footprint BUTTONPAD-4X4-STAGGERED
part A pins: BLU0 BLU (io), GND0 GND (io), GRN0 GRN (io), RED0 RED (io), SIG0 SIG1 (io), SIG1 SIG2 (io)
part B pins: BLU1 BLU (io), GND1 GND (io), GRN1 GRN (io), RED1 RED (io), SIG2 SIG1 (io), SIG3 SIG2 (io)
part C pins: BLU2 BLU (io), GND2 GND (io), GRN2 GRN (io), RED2 RED (io), SIG4 SIG1 (io), SIG5 SIG2 (io)
part D pins: BLU3 BLU (io), GND3 GND (io), GRN3 GRN (io), RED3 RED (io), SIG6 SIG1 (io), SIG7 SIG2 (io)
part E pins: BLU4 BLU (io), GND4 GND (io), GRN4 GRN (io), RED4 RED (io), SIG8 SIG1 (io), SIG9 SIG2 (io)
part F pins: BLU5 BLU (io), GND5 GND (io), GRN6 GRN (io), RED5 RED (io), SIG10 SIG1 (io), SIG11 SIG2 (io)
part G pins: BLU6 BLU (io), GND6 GND (io), GRN5 GRN (io), RED6 RED (io), SIG12 SIG1 (io), SIG13 SIG2 (io)
part H pins: BLU7 BLU (io), GND7 GND (io), GRN7 GRN (io), RED7 RED (io), SIG14 SIG1 (io), SIG15 SIG2 (io)
part I pins: BLU8 BLU (io), GND8 GND (io), GRN8 GRN (io), RED8 RED (io), SIG16 SIG1 (io), SIG17 SIG2 (io)
part J pins: BLU9 BLU (io), GND9 GND (io), GRN9 GRN (io), RED9 RED (io), SIG18 SIG1 (io), SIG19 SIG2 (io)
part K pins: BLU10 BLU (io), GND10 GND (io), GRN10 GRN (io), RED10 RED (io), SIG20 SIG1 (io), SIG21 SIG2 (io)
part L pins: BLU11 BLU (io), GND11 GND (io), GRN11 GRN (io), RED11 RED (io), SIG22 SIG1 (io), SIG23 SIG2 (io)
part M pins: BLU12 BLU (io), GND12 GND (io), GRN12 GRN (io), RED12 RED (io), SIG24 SIG1 (io), SIG25 SIG2 (io)
part N pins: BLU13 BLU (io), GND13 GND (io), GRN13 GRN (io), RED13 RED (io), SIG26 SIG1 (io), SIG27 SIG2 (io)
part O pins: BLU14 BLU (io), GND14 GND (io), GRN14 GRN (io), RED14 RED (io), SIG28 SIG1 (io), SIG29 SIG2 (io)
part P pins: BLU15 BLU (io), GND15 GND (io), GRN15 GRN (io), RED15 RED (io), SIG30 SIG1 (io), SIG31 SIG2 (io)

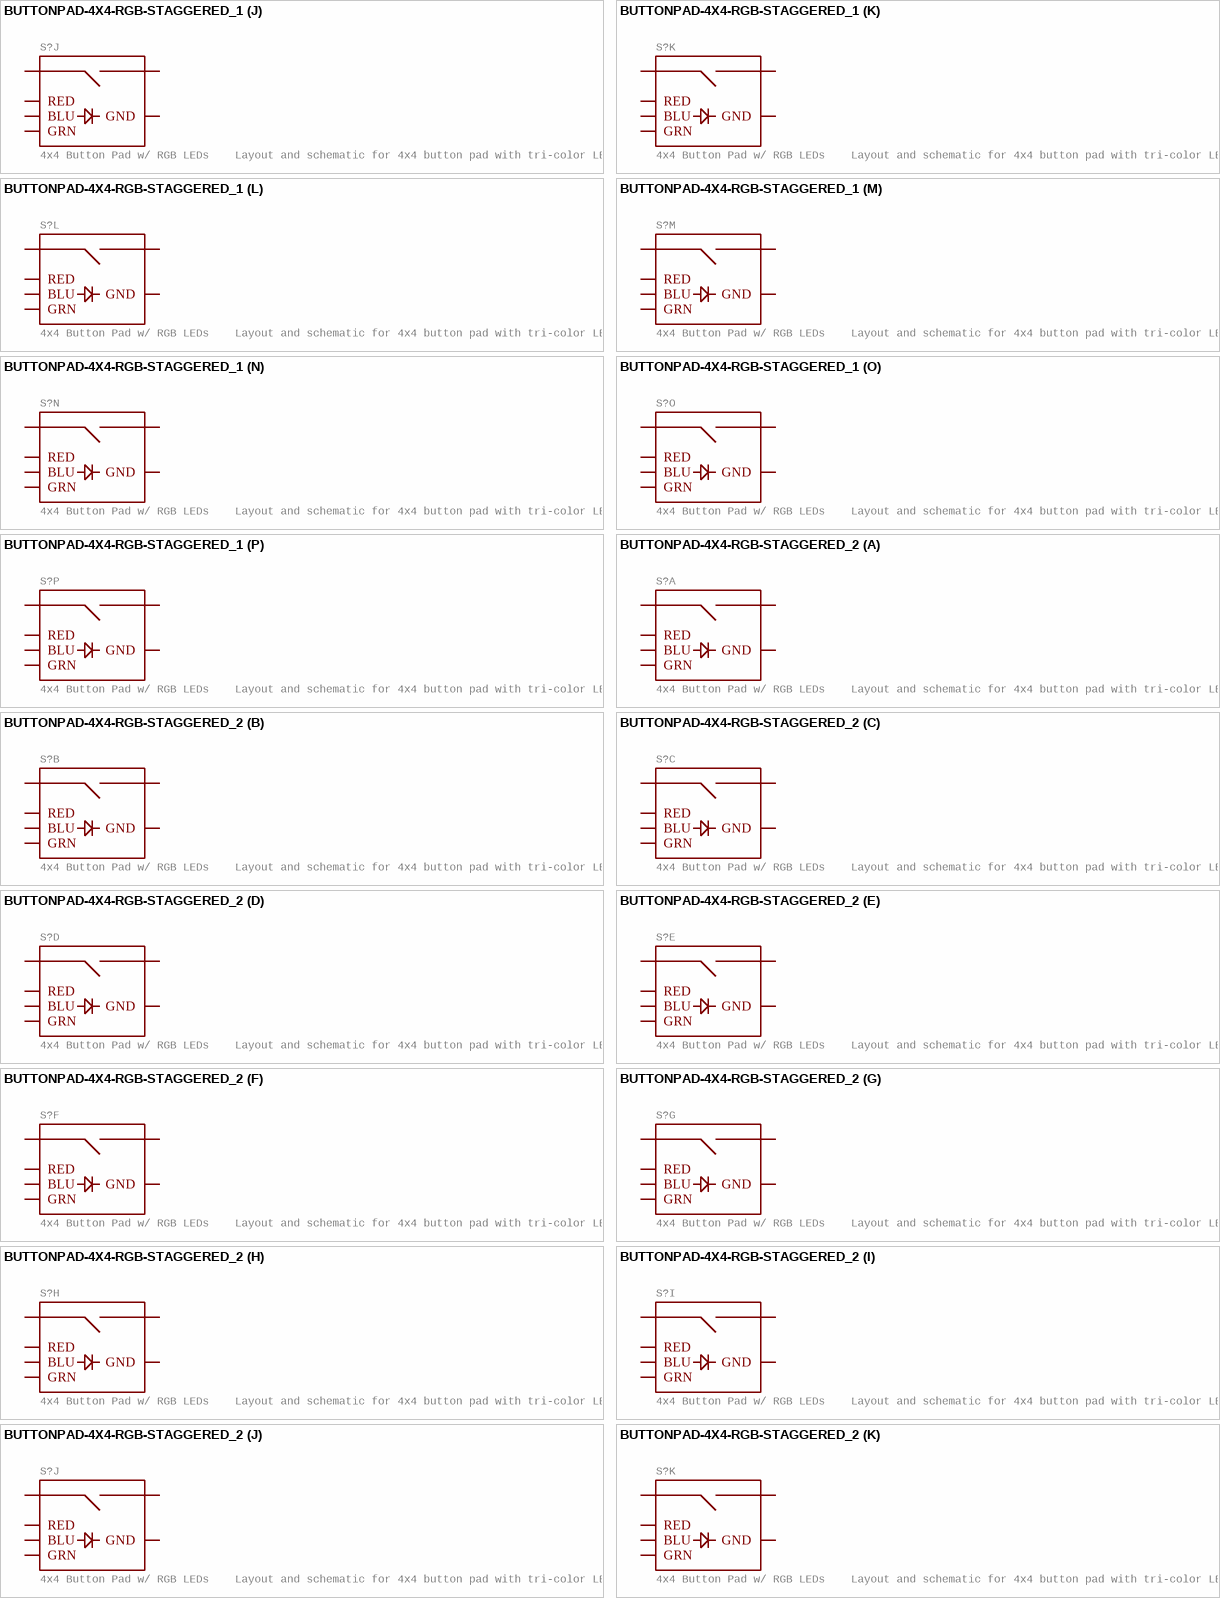
[diagram p6: symbols BUTTONPAD-4X4-RGB-STAGGERED_1 to BUTTONPAD-4X4-RGB-STAGGERED_2]

## BUTTONPAD-4X4-RGB-STAGGERED_1
designator S?, comment 4x4 Button Pad w/ RGB LEDs    Layout and schematic for 4x4 button pad with tri-color LEDs under each button. For use with the 4x Button Pad 2x2 - LED Compatible and 4x Button Pad 2x2 Top Bezel.   Any RGB 5mm LED should be compatible. SparkFun Products  SparkFun Simon Says - Through-Hole Soldering Kit (KIT-10547)  Button Pad 2x2 - Breakout PCB (COM-09277)
GateName_1: G$0; SymbolName_1: BUTTONPAD-RGB; GateName_2: G$1; GateName_3: G$2; GateName_4: G$3; GateName_5: G$4; GateName_6: G$5; GateName_7: G$6; GateName_8: G$7; GateName_9: G$8; GateName_10: G$9; GateName_11: G$10; GateName_12: G$11; GateName_13: G$12; GateName_14: G$13; GateName_15: G$14; GateName_16: G$15; DeviceName: -STAGGERED; DeviceSetName: BUTTONPAD-4X4-RGB; PROD_ID: COMP-08481; SF_SKU: COM-07836; SymbolName_2: BUTTONPAD-RGB; SymbolName_3: BUTTONPAD-RGB; SymbolName_4: BUTTONPAD-RGB; SymbolName_5: BUTTONPAD-RGB; SymbolName_6: BUTTONPAD-RGB; SymbolName_7: BUTTONPAD-RGB; SymbolName_8: BUTTONPAD-RGB; SymbolName_9: BUTTONPAD-RGB; SymbolName_10: BUTTONPAD-RGB; SymbolName_11: BUTTONPAD-RGB; SymbolName_12: BUTTONPAD-RGB; SymbolName_13: BUTTONPAD-RGB; SymbolName_14: BUTTONPAD-RGB; SymbolName_15: BUTTONPAD-RGB; SymbolName_16: BUTTONPAD-RGB; LibraryName: SparkFun-Switches; Package: BUTTONPAD-4X4-STAGGERED
footprint BUTTONPAD-4X4-STAGGERED
part A pins: BLU0 BLU (io), GND0 GND (io), GRN0 GRN (io), RED0 RED (io), SIG0 SIG1 (io), SIG1 SIG2 (io)
part B pins: BLU1 BLU (io), GND1 GND (io), GRN1 GRN (io), RED1 RED (io), SIG2 SIG1 (io), SIG3 SIG2 (io)
part C pins: BLU2 BLU (io), GND2 GND (io), GRN2 GRN (io), RED2 RED (io), SIG4 SIG1 (io), SIG5 SIG2 (io)
part D pins: BLU3 BLU (io), GND3 GND (io), GRN3 GRN (io), RED3 RED (io), SIG6 SIG1 (io), SIG7 SIG2 (io)
part E pins: BLU4 BLU (io), GND4 GND (io), GRN4 GRN (io), RED4 RED (io), SIG8 SIG1 (io), SIG9 SIG2 (io)
part F pins: BLU5 BLU (io), GND5 GND (io), GRN6 GRN (io), RED5 RED (io), SIG10 SIG1 (io), SIG11 SIG2 (io)
part G pins: BLU6 BLU (io), GND6 GND (io), GRN5 GRN (io), RED6 RED (io), SIG12 SIG1 (io), SIG13 SIG2 (io)
part H pins: BLU7 BLU (io), GND7 GND (io), GRN7 GRN (io), RED7 RED (io), SIG14 SIG1 (io), SIG15 SIG2 (io)
part I pins: BLU8 BLU (io), GND8 GND (io), GRN8 GRN (io), RED8 RED (io), SIG16 SIG1 (io), SIG17 SIG2 (io)
part J pins: BLU9 BLU (io), GND9 GND (io), GRN9 GRN (io), RED9 RED (io), SIG18 SIG1 (io), SIG19 SIG2 (io)
part K pins: BLU10 BLU (io), GND10 GND (io), GRN10 GRN (io), RED10 RED (io), SIG20 SIG1 (io), SIG21 SIG2 (io)
part L pins: BLU11 BLU (io), GND11 GND (io), GRN11 GRN (io), RED11 RED (io), SIG22 SIG1 (io), SIG23 SIG2 (io)
part M pins: BLU12 BLU (io), GND12 GND (io), GRN12 GRN (io), RED12 RED (io), SIG24 SIG1 (io), SIG25 SIG2 (io)
part N pins: BLU13 BLU (io), GND13 GND (io), GRN13 GRN (io), RED13 RED (io), SIG26 SIG1 (io), SIG27 SIG2 (io)
part O pins: BLU14 BLU (io), GND14 GND (io), GRN14 GRN (io), RED14 RED (io), SIG28 SIG1 (io), SIG29 SIG2 (io)
part P pins: BLU15 BLU (io), GND15 GND (io), GRN15 GRN (io), RED15 RED (io), SIG30 SIG1 (io), SIG31 SIG2 (io)

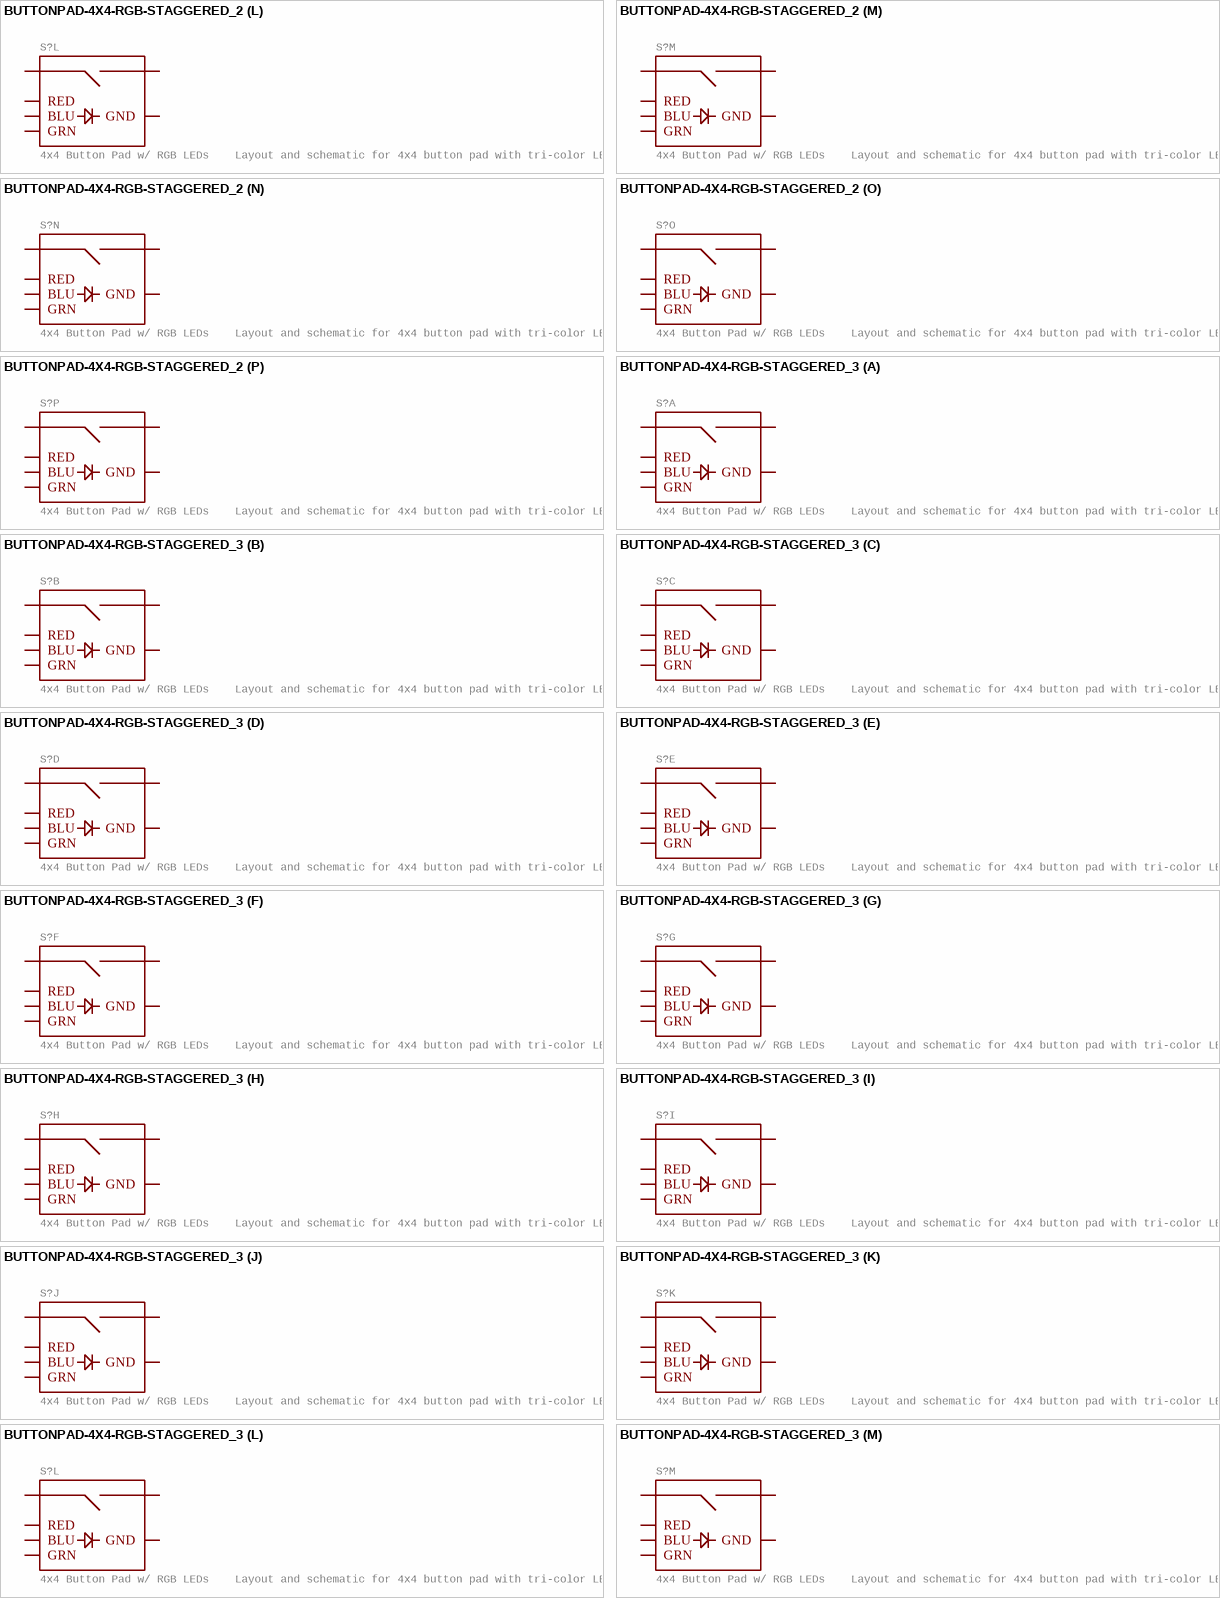
[diagram p7: symbols BUTTONPAD-4X4-RGB-STAGGERED_2 to BUTTONPAD-4X4-RGB-STAGGERED_3]

## BUTTONPAD-4X4-RGB-STAGGERED_2
designator S?, comment 4x4 Button Pad w/ RGB LEDs    Layout and schematic for 4x4 button pad with tri-color LEDs under each button. For use with the 4x Button Pad 2x2 - LED Compatible and 4x Button Pad 2x2 Top Bezel.   Any RGB 5mm LED should be compatible. SparkFun Products  SparkFun Simon Says - Through-Hole Soldering Kit (KIT-10547)  Button Pad 2x2 - Breakout PCB (COM-09277)
GateName_1: G$0; SymbolName_1: BUTTONPAD-RGB; GateName_2: G$1; GateName_3: G$2; GateName_4: G$3; GateName_5: G$4; GateName_6: G$5; GateName_7: G$6; GateName_8: G$7; GateName_9: G$8; GateName_10: G$9; GateName_11: G$10; GateName_12: G$11; GateName_13: G$12; GateName_14: G$13; GateName_15: G$14; GateName_16: G$15; DeviceName: -STAGGERED; DeviceSetName: BUTTONPAD-4X4-RGB; PROD_ID: COMP-08481; SF_SKU: COM-07836; SymbolName_2: BUTTONPAD-RGB; SymbolName_3: BUTTONPAD-RGB; SymbolName_4: BUTTONPAD-RGB; SymbolName_5: BUTTONPAD-RGB; SymbolName_6: BUTTONPAD-RGB; SymbolName_7: BUTTONPAD-RGB; SymbolName_8: BUTTONPAD-RGB; SymbolName_9: BUTTONPAD-RGB; SymbolName_10: BUTTONPAD-RGB; SymbolName_11: BUTTONPAD-RGB; SymbolName_12: BUTTONPAD-RGB; SymbolName_13: BUTTONPAD-RGB; SymbolName_14: BUTTONPAD-RGB; SymbolName_15: BUTTONPAD-RGB; SymbolName_16: BUTTONPAD-RGB; LibraryName: SparkFun-Switches; Package: BUTTONPAD-4X4-STAGGERED
footprint BUTTONPAD-4X4-STAGGERED
part A pins: BLU0 BLU (io), GND0 GND (io), GRN0 GRN (io), RED0 RED (io), SIG0 SIG1 (io), SIG1 SIG2 (io)
part B pins: BLU1 BLU (io), GND1 GND (io), GRN1 GRN (io), RED1 RED (io), SIG2 SIG1 (io), SIG3 SIG2 (io)
part C pins: BLU2 BLU (io), GND2 GND (io), GRN2 GRN (io), RED2 RED (io), SIG4 SIG1 (io), SIG5 SIG2 (io)
part D pins: BLU3 BLU (io), GND3 GND (io), GRN3 GRN (io), RED3 RED (io), SIG6 SIG1 (io), SIG7 SIG2 (io)
part E pins: BLU4 BLU (io), GND4 GND (io), GRN4 GRN (io), RED4 RED (io), SIG8 SIG1 (io), SIG9 SIG2 (io)
part F pins: BLU5 BLU (io), GND5 GND (io), GRN6 GRN (io), RED5 RED (io), SIG10 SIG1 (io), SIG11 SIG2 (io)
part G pins: BLU6 BLU (io), GND6 GND (io), GRN5 GRN (io), RED6 RED (io), SIG12 SIG1 (io), SIG13 SIG2 (io)
part H pins: BLU7 BLU (io), GND7 GND (io), GRN7 GRN (io), RED7 RED (io), SIG14 SIG1 (io), SIG15 SIG2 (io)
part I pins: BLU8 BLU (io), GND8 GND (io), GRN8 GRN (io), RED8 RED (io), SIG16 SIG1 (io), SIG17 SIG2 (io)
part J pins: BLU9 BLU (io), GND9 GND (io), GRN9 GRN (io), RED9 RED (io), SIG18 SIG1 (io), SIG19 SIG2 (io)
part K pins: BLU10 BLU (io), GND10 GND (io), GRN10 GRN (io), RED10 RED (io), SIG20 SIG1 (io), SIG21 SIG2 (io)
part L pins: BLU11 BLU (io), GND11 GND (io), GRN11 GRN (io), RED11 RED (io), SIG22 SIG1 (io), SIG23 SIG2 (io)
part M pins: BLU12 BLU (io), GND12 GND (io), GRN12 GRN (io), RED12 RED (io), SIG24 SIG1 (io), SIG25 SIG2 (io)
part N pins: BLU13 BLU (io), GND13 GND (io), GRN13 GRN (io), RED13 RED (io), SIG26 SIG1 (io), SIG27 SIG2 (io)
part O pins: BLU14 BLU (io), GND14 GND (io), GRN14 GRN (io), RED14 RED (io), SIG28 SIG1 (io), SIG29 SIG2 (io)
part P pins: BLU15 BLU (io), GND15 GND (io), GRN15 GRN (io), RED15 RED (io), SIG30 SIG1 (io), SIG31 SIG2 (io)

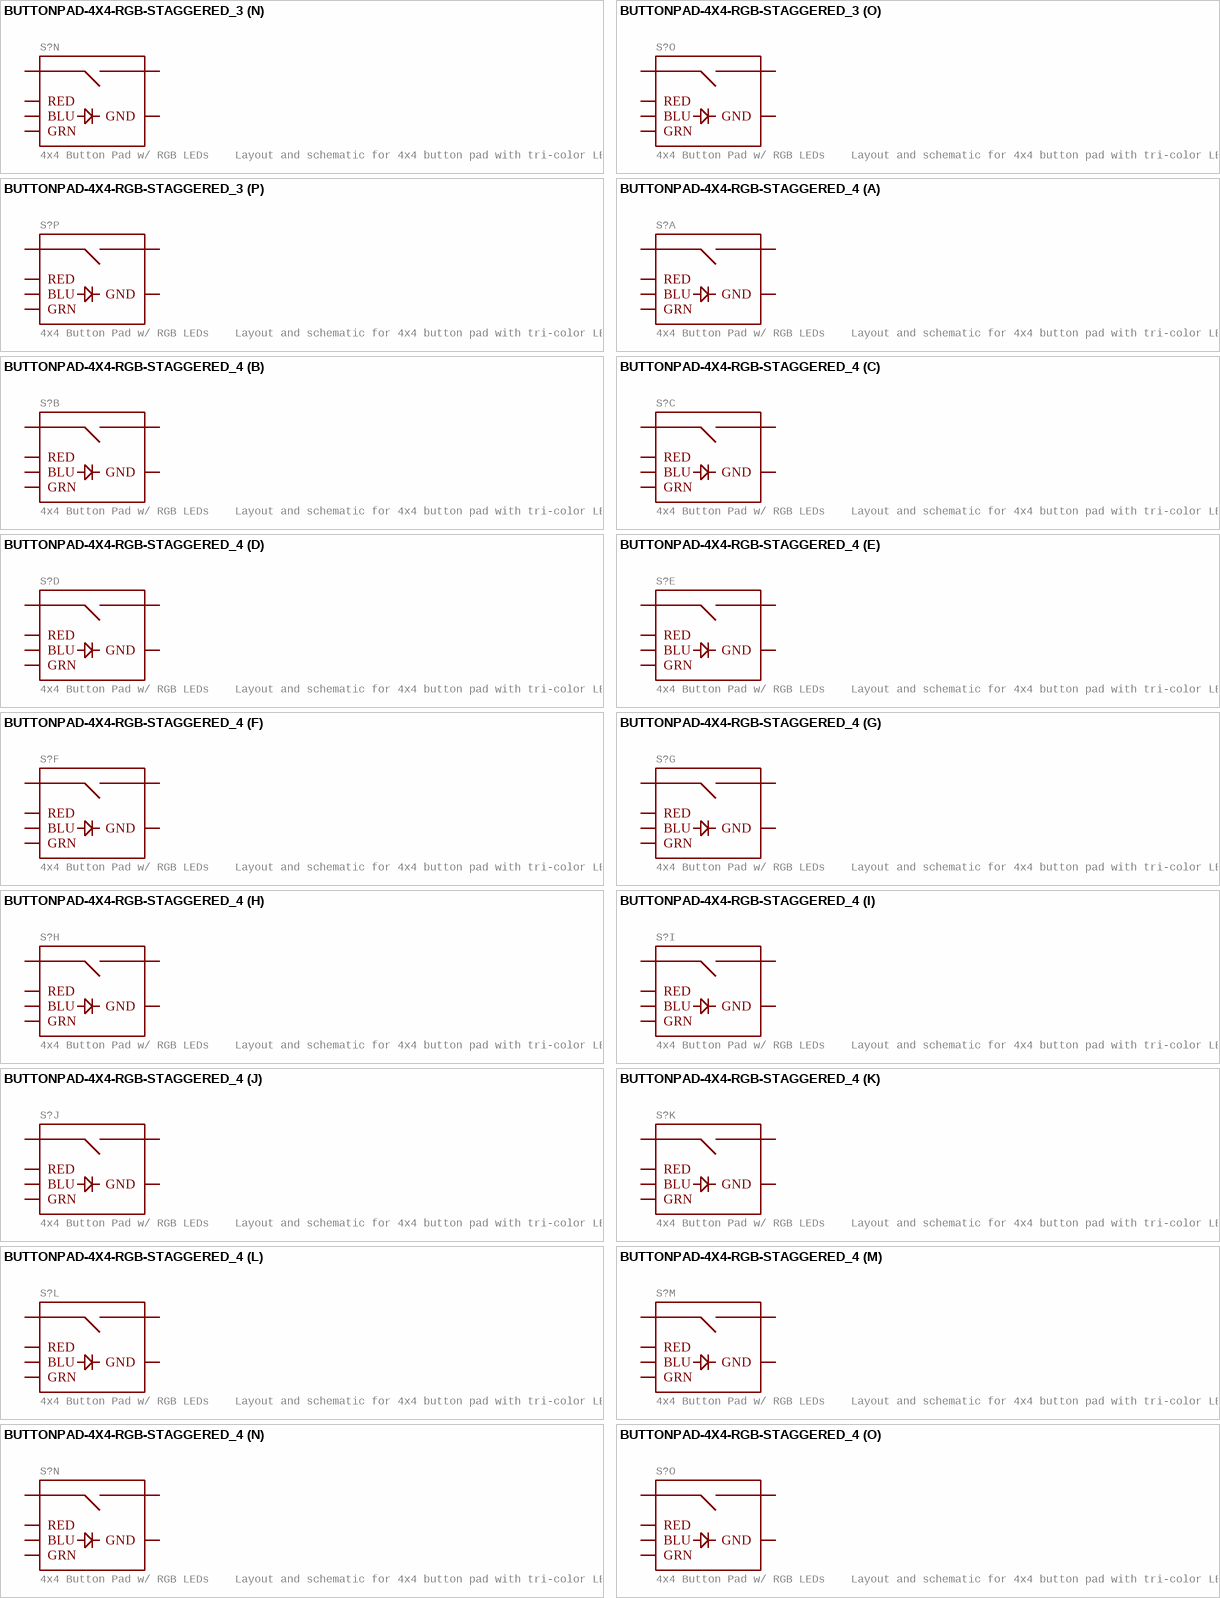
[diagram p8: symbols BUTTONPAD-4X4-RGB-STAGGERED_3 to BUTTONPAD-4X4-RGB-STAGGERED_4]

## BUTTONPAD-4X4-RGB-STAGGERED_3
designator S?, comment 4x4 Button Pad w/ RGB LEDs    Layout and schematic for 4x4 button pad with tri-color LEDs under each button. For use with the 4x Button Pad 2x2 - LED Compatible and 4x Button Pad 2x2 Top Bezel.   Any RGB 5mm LED should be compatible. SparkFun Products  SparkFun Simon Says - Through-Hole Soldering Kit (KIT-10547)  Button Pad 2x2 - Breakout PCB (COM-09277)
GateName_1: G$0; SymbolName_1: BUTTONPAD-RGB; GateName_2: G$1; GateName_3: G$2; GateName_4: G$3; GateName_5: G$4; GateName_6: G$5; GateName_7: G$6; GateName_8: G$7; GateName_9: G$8; GateName_10: G$9; GateName_11: G$10; GateName_12: G$11; GateName_13: G$12; GateName_14: G$13; GateName_15: G$14; GateName_16: G$15; DeviceName: -STAGGERED; DeviceSetName: BUTTONPAD-4X4-RGB; PROD_ID: COMP-08481; SF_SKU: COM-07836; SymbolName_2: BUTTONPAD-RGB; SymbolName_3: BUTTONPAD-RGB; SymbolName_4: BUTTONPAD-RGB; SymbolName_5: BUTTONPAD-RGB; SymbolName_6: BUTTONPAD-RGB; SymbolName_7: BUTTONPAD-RGB; SymbolName_8: BUTTONPAD-RGB; SymbolName_9: BUTTONPAD-RGB; SymbolName_10: BUTTONPAD-RGB; SymbolName_11: BUTTONPAD-RGB; SymbolName_12: BUTTONPAD-RGB; SymbolName_13: BUTTONPAD-RGB; SymbolName_14: BUTTONPAD-RGB; SymbolName_15: BUTTONPAD-RGB; SymbolName_16: BUTTONPAD-RGB; LibraryName: SparkFun-Switches; Package: BUTTONPAD-4X4-STAGGERED
footprint BUTTONPAD-4X4-STAGGERED
part A pins: BLU0 BLU (io), GND0 GND (io), GRN0 GRN (io), RED0 RED (io), SIG0 SIG1 (io), SIG1 SIG2 (io)
part B pins: BLU1 BLU (io), GND1 GND (io), GRN1 GRN (io), RED1 RED (io), SIG2 SIG1 (io), SIG3 SIG2 (io)
part C pins: BLU2 BLU (io), GND2 GND (io), GRN2 GRN (io), RED2 RED (io), SIG4 SIG1 (io), SIG5 SIG2 (io)
part D pins: BLU3 BLU (io), GND3 GND (io), GRN3 GRN (io), RED3 RED (io), SIG6 SIG1 (io), SIG7 SIG2 (io)
part E pins: BLU4 BLU (io), GND4 GND (io), GRN4 GRN (io), RED4 RED (io), SIG8 SIG1 (io), SIG9 SIG2 (io)
part F pins: BLU5 BLU (io), GND5 GND (io), GRN6 GRN (io), RED5 RED (io), SIG10 SIG1 (io), SIG11 SIG2 (io)
part G pins: BLU6 BLU (io), GND6 GND (io), GRN5 GRN (io), RED6 RED (io), SIG12 SIG1 (io), SIG13 SIG2 (io)
part H pins: BLU7 BLU (io), GND7 GND (io), GRN7 GRN (io), RED7 RED (io), SIG14 SIG1 (io), SIG15 SIG2 (io)
part I pins: BLU8 BLU (io), GND8 GND (io), GRN8 GRN (io), RED8 RED (io), SIG16 SIG1 (io), SIG17 SIG2 (io)
part J pins: BLU9 BLU (io), GND9 GND (io), GRN9 GRN (io), RED9 RED (io), SIG18 SIG1 (io), SIG19 SIG2 (io)
part K pins: BLU10 BLU (io), GND10 GND (io), GRN10 GRN (io), RED10 RED (io), SIG20 SIG1 (io), SIG21 SIG2 (io)
part L pins: BLU11 BLU (io), GND11 GND (io), GRN11 GRN (io), RED11 RED (io), SIG22 SIG1 (io), SIG23 SIG2 (io)
part M pins: BLU12 BLU (io), GND12 GND (io), GRN12 GRN (io), RED12 RED (io), SIG24 SIG1 (io), SIG25 SIG2 (io)
part N pins: BLU13 BLU (io), GND13 GND (io), GRN13 GRN (io), RED13 RED (io), SIG26 SIG1 (io), SIG27 SIG2 (io)
part O pins: BLU14 BLU (io), GND14 GND (io), GRN14 GRN (io), RED14 RED (io), SIG28 SIG1 (io), SIG29 SIG2 (io)
part P pins: BLU15 BLU (io), GND15 GND (io), GRN15 GRN (io), RED15 RED (io), SIG30 SIG1 (io), SIG31 SIG2 (io)

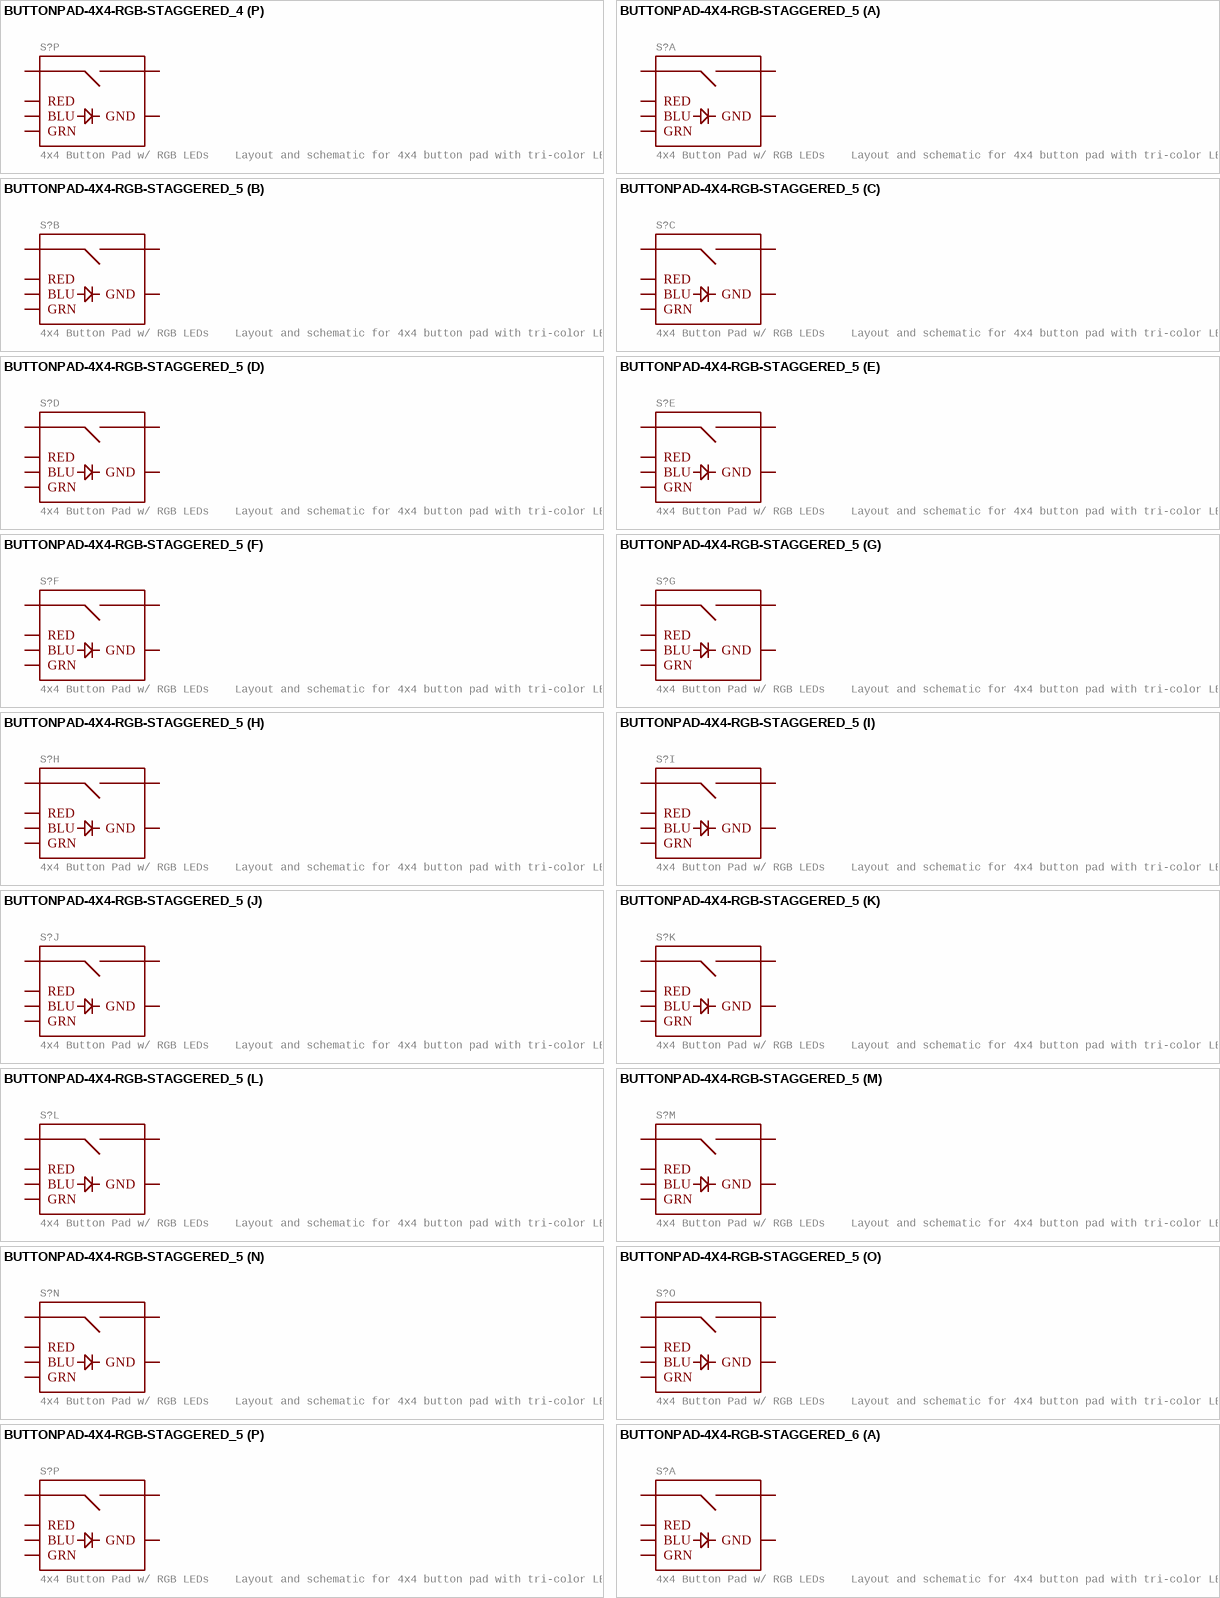
[diagram p9: symbols BUTTONPAD-4X4-RGB-STAGGERED_4 to BUTTONPAD-4X4-RGB-STAGGERED_6]

## BUTTONPAD-4X4-RGB-STAGGERED_4
designator S?, comment 4x4 Button Pad w/ RGB LEDs    Layout and schematic for 4x4 button pad with tri-color LEDs under each button. For use with the 4x Button Pad 2x2 - LED Compatible and 4x Button Pad 2x2 Top Bezel.   Any RGB 5mm LED should be compatible. SparkFun Products  SparkFun Simon Says - Through-Hole Soldering Kit (KIT-10547)  Button Pad 2x2 - Breakout PCB (COM-09277)
GateName_1: G$0; SymbolName_1: BUTTONPAD-RGB; GateName_2: G$1; GateName_3: G$2; GateName_4: G$3; GateName_5: G$4; GateName_6: G$5; GateName_7: G$6; GateName_8: G$7; GateName_9: G$8; GateName_10: G$9; GateName_11: G$10; GateName_12: G$11; GateName_13: G$12; GateName_14: G$13; GateName_15: G$14; GateName_16: G$15; DeviceName: -STAGGERED; DeviceSetName: BUTTONPAD-4X4-RGB; PROD_ID: COMP-08481; SF_SKU: COM-07836; SymbolName_2: BUTTONPAD-RGB; SymbolName_3: BUTTONPAD-RGB; SymbolName_4: BUTTONPAD-RGB; SymbolName_5: BUTTONPAD-RGB; SymbolName_6: BUTTONPAD-RGB; SymbolName_7: BUTTONPAD-RGB; SymbolName_8: BUTTONPAD-RGB; SymbolName_9: BUTTONPAD-RGB; SymbolName_10: BUTTONPAD-RGB; SymbolName_11: BUTTONPAD-RGB; SymbolName_12: BUTTONPAD-RGB; SymbolName_13: BUTTONPAD-RGB; SymbolName_14: BUTTONPAD-RGB; SymbolName_15: BUTTONPAD-RGB; SymbolName_16: BUTTONPAD-RGB; LibraryName: SparkFun-Switches; Package: BUTTONPAD-4X4-STAGGERED
footprint BUTTONPAD-4X4-STAGGERED
part A pins: BLU0 BLU (io), GND0 GND (io), GRN0 GRN (io), RED0 RED (io), SIG0 SIG1 (io), SIG1 SIG2 (io)
part B pins: BLU1 BLU (io), GND1 GND (io), GRN1 GRN (io), RED1 RED (io), SIG2 SIG1 (io), SIG3 SIG2 (io)
part C pins: BLU2 BLU (io), GND2 GND (io), GRN2 GRN (io), RED2 RED (io), SIG4 SIG1 (io), SIG5 SIG2 (io)
part D pins: BLU3 BLU (io), GND3 GND (io), GRN3 GRN (io), RED3 RED (io), SIG6 SIG1 (io), SIG7 SIG2 (io)
part E pins: BLU4 BLU (io), GND4 GND (io), GRN4 GRN (io), RED4 RED (io), SIG8 SIG1 (io), SIG9 SIG2 (io)
part F pins: BLU5 BLU (io), GND5 GND (io), GRN6 GRN (io), RED5 RED (io), SIG10 SIG1 (io), SIG11 SIG2 (io)
part G pins: BLU6 BLU (io), GND6 GND (io), GRN5 GRN (io), RED6 RED (io), SIG12 SIG1 (io), SIG13 SIG2 (io)
part H pins: BLU7 BLU (io), GND7 GND (io), GRN7 GRN (io), RED7 RED (io), SIG14 SIG1 (io), SIG15 SIG2 (io)
part I pins: BLU8 BLU (io), GND8 GND (io), GRN8 GRN (io), RED8 RED (io), SIG16 SIG1 (io), SIG17 SIG2 (io)
part J pins: BLU9 BLU (io), GND9 GND (io), GRN9 GRN (io), RED9 RED (io), SIG18 SIG1 (io), SIG19 SIG2 (io)
part K pins: BLU10 BLU (io), GND10 GND (io), GRN10 GRN (io), RED10 RED (io), SIG20 SIG1 (io), SIG21 SIG2 (io)
part L pins: BLU11 BLU (io), GND11 GND (io), GRN11 GRN (io), RED11 RED (io), SIG22 SIG1 (io), SIG23 SIG2 (io)
part M pins: BLU12 BLU (io), GND12 GND (io), GRN12 GRN (io), RED12 RED (io), SIG24 SIG1 (io), SIG25 SIG2 (io)
part N pins: BLU13 BLU (io), GND13 GND (io), GRN13 GRN (io), RED13 RED (io), SIG26 SIG1 (io), SIG27 SIG2 (io)
part O pins: BLU14 BLU (io), GND14 GND (io), GRN14 GRN (io), RED14 RED (io), SIG28 SIG1 (io), SIG29 SIG2 (io)
part P pins: BLU15 BLU (io), GND15 GND (io), GRN15 GRN (io), RED15 RED (io), SIG30 SIG1 (io), SIG31 SIG2 (io)

## BUTTONPAD-4X4-RGB-STAGGERED_5
designator S?, comment 4x4 Button Pad w/ RGB LEDs    Layout and schematic for 4x4 button pad with tri-color LEDs under each button. For use with the 4x Button Pad 2x2 - LED Compatible and 4x Button Pad 2x2 Top Bezel.   Any RGB 5mm LED should be compatible. SparkFun Products  SparkFun Simon Says - Through-Hole Soldering Kit (KIT-10547)  Button Pad 2x2 - Breakout PCB (COM-09277)
GateName_1: G$0; SymbolName_1: BUTTONPAD-RGB; GateName_2: G$1; GateName_3: G$2; GateName_4: G$3; GateName_5: G$4; GateName_6: G$5; GateName_7: G$6; GateName_8: G$7; GateName_9: G$8; GateName_10: G$9; GateName_11: G$10; GateName_12: G$11; GateName_13: G$12; GateName_14: G$13; GateName_15: G$14; GateName_16: G$15; DeviceName: -STAGGERED; DeviceSetName: BUTTONPAD-4X4-RGB; PROD_ID: COMP-08481; SF_SKU: COM-07836; SymbolName_2: BUTTONPAD-RGB; SymbolName_3: BUTTONPAD-RGB; SymbolName_4: BUTTONPAD-RGB; SymbolName_5: BUTTONPAD-RGB; SymbolName_6: BUTTONPAD-RGB; SymbolName_7: BUTTONPAD-RGB; SymbolName_8: BUTTONPAD-RGB; SymbolName_9: BUTTONPAD-RGB; SymbolName_10: BUTTONPAD-RGB; SymbolName_11: BUTTONPAD-RGB; SymbolName_12: BUTTONPAD-RGB; SymbolName_13: BUTTONPAD-RGB; SymbolName_14: BUTTONPAD-RGB; SymbolName_15: BUTTONPAD-RGB; SymbolName_16: BUTTONPAD-RGB; LibraryName: SparkFun-Switches; Package: BUTTONPAD-4X4-STAGGERED
footprint BUTTONPAD-4X4-STAGGERED
part A pins: BLU0 BLU (io), GND0 GND (io), GRN0 GRN (io), RED0 RED (io), SIG0 SIG1 (io), SIG1 SIG2 (io)
part B pins: BLU1 BLU (io), GND1 GND (io), GRN1 GRN (io), RED1 RED (io), SIG2 SIG1 (io), SIG3 SIG2 (io)
part C pins: BLU2 BLU (io), GND2 GND (io), GRN2 GRN (io), RED2 RED (io), SIG4 SIG1 (io), SIG5 SIG2 (io)
part D pins: BLU3 BLU (io), GND3 GND (io), GRN3 GRN (io), RED3 RED (io), SIG6 SIG1 (io), SIG7 SIG2 (io)
part E pins: BLU4 BLU (io), GND4 GND (io), GRN4 GRN (io), RED4 RED (io), SIG8 SIG1 (io), SIG9 SIG2 (io)
part F pins: BLU5 BLU (io), GND5 GND (io), GRN6 GRN (io), RED5 RED (io), SIG10 SIG1 (io), SIG11 SIG2 (io)
part G pins: BLU6 BLU (io), GND6 GND (io), GRN5 GRN (io), RED6 RED (io), SIG12 SIG1 (io), SIG13 SIG2 (io)
part H pins: BLU7 BLU (io), GND7 GND (io), GRN7 GRN (io), RED7 RED (io), SIG14 SIG1 (io), SIG15 SIG2 (io)
part I pins: BLU8 BLU (io), GND8 GND (io), GRN8 GRN (io), RED8 RED (io), SIG16 SIG1 (io), SIG17 SIG2 (io)
part J pins: BLU9 BLU (io), GND9 GND (io), GRN9 GRN (io), RED9 RED (io), SIG18 SIG1 (io), SIG19 SIG2 (io)
part K pins: BLU10 BLU (io), GND10 GND (io), GRN10 GRN (io), RED10 RED (io), SIG20 SIG1 (io), SIG21 SIG2 (io)
part L pins: BLU11 BLU (io), GND11 GND (io), GRN11 GRN (io), RED11 RED (io), SIG22 SIG1 (io), SIG23 SIG2 (io)
part M pins: BLU12 BLU (io), GND12 GND (io), GRN12 GRN (io), RED12 RED (io), SIG24 SIG1 (io), SIG25 SIG2 (io)
part N pins: BLU13 BLU (io), GND13 GND (io), GRN13 GRN (io), RED13 RED (io), SIG26 SIG1 (io), SIG27 SIG2 (io)
part O pins: BLU14 BLU (io), GND14 GND (io), GRN14 GRN (io), RED14 RED (io), SIG28 SIG1 (io), SIG29 SIG2 (io)
part P pins: BLU15 BLU (io), GND15 GND (io), GRN15 GRN (io), RED15 RED (io), SIG30 SIG1 (io), SIG31 SIG2 (io)

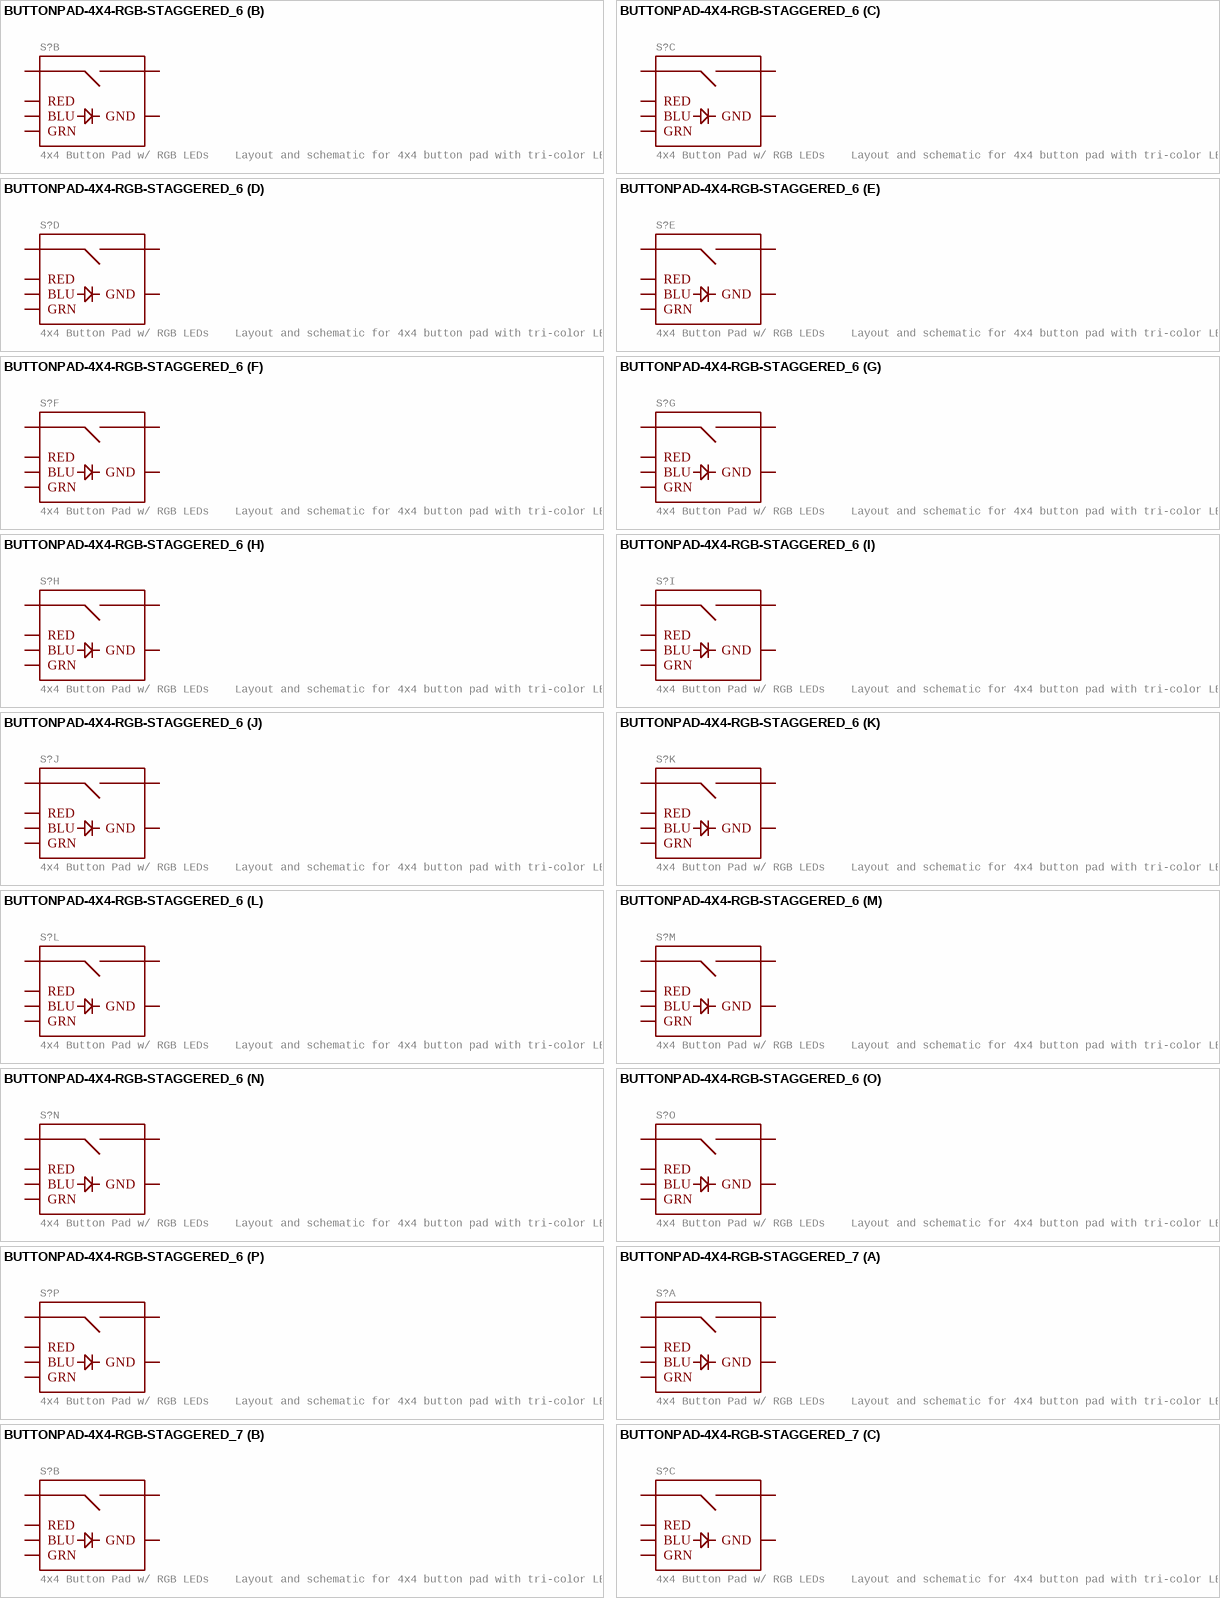
[diagram p10: symbols BUTTONPAD-4X4-RGB-STAGGERED_6 to BUTTONPAD-4X4-RGB-STAGGERED_7]

## BUTTONPAD-4X4-RGB-STAGGERED_6
designator S?, comment 4x4 Button Pad w/ RGB LEDs    Layout and schematic for 4x4 button pad with tri-color LEDs under each button. For use with the 4x Button Pad 2x2 - LED Compatible and 4x Button Pad 2x2 Top Bezel.   Any RGB 5mm LED should be compatible. SparkFun Products  SparkFun Simon Says - Through-Hole Soldering Kit (KIT-10547)  Button Pad 2x2 - Breakout PCB (COM-09277)
GateName_1: G$0; SymbolName_1: BUTTONPAD-RGB; GateName_2: G$1; GateName_3: G$2; GateName_4: G$3; GateName_5: G$4; GateName_6: G$5; GateName_7: G$6; GateName_8: G$7; GateName_9: G$8; GateName_10: G$9; GateName_11: G$10; GateName_12: G$11; GateName_13: G$12; GateName_14: G$13; GateName_15: G$14; GateName_16: G$15; DeviceName: -STAGGERED; DeviceSetName: BUTTONPAD-4X4-RGB; PROD_ID: COMP-08481; SF_SKU: COM-07836; SymbolName_2: BUTTONPAD-RGB; SymbolName_3: BUTTONPAD-RGB; SymbolName_4: BUTTONPAD-RGB; SymbolName_5: BUTTONPAD-RGB; SymbolName_6: BUTTONPAD-RGB; SymbolName_7: BUTTONPAD-RGB; SymbolName_8: BUTTONPAD-RGB; SymbolName_9: BUTTONPAD-RGB; SymbolName_10: BUTTONPAD-RGB; SymbolName_11: BUTTONPAD-RGB; SymbolName_12: BUTTONPAD-RGB; SymbolName_13: BUTTONPAD-RGB; SymbolName_14: BUTTONPAD-RGB; SymbolName_15: BUTTONPAD-RGB; SymbolName_16: BUTTONPAD-RGB; LibraryName: SparkFun-Switches; Package: BUTTONPAD-4X4-STAGGERED
footprint BUTTONPAD-4X4-STAGGERED
part A pins: BLU0 BLU (io), GND0 GND (io), GRN0 GRN (io), RED0 RED (io), SIG0 SIG1 (io), SIG1 SIG2 (io)
part B pins: BLU1 BLU (io), GND1 GND (io), GRN1 GRN (io), RED1 RED (io), SIG2 SIG1 (io), SIG3 SIG2 (io)
part C pins: BLU2 BLU (io), GND2 GND (io), GRN2 GRN (io), RED2 RED (io), SIG4 SIG1 (io), SIG5 SIG2 (io)
part D pins: BLU3 BLU (io), GND3 GND (io), GRN3 GRN (io), RED3 RED (io), SIG6 SIG1 (io), SIG7 SIG2 (io)
part E pins: BLU4 BLU (io), GND4 GND (io), GRN4 GRN (io), RED4 RED (io), SIG8 SIG1 (io), SIG9 SIG2 (io)
part F pins: BLU5 BLU (io), GND5 GND (io), GRN6 GRN (io), RED5 RED (io), SIG10 SIG1 (io), SIG11 SIG2 (io)
part G pins: BLU6 BLU (io), GND6 GND (io), GRN5 GRN (io), RED6 RED (io), SIG12 SIG1 (io), SIG13 SIG2 (io)
part H pins: BLU7 BLU (io), GND7 GND (io), GRN7 GRN (io), RED7 RED (io), SIG14 SIG1 (io), SIG15 SIG2 (io)
part I pins: BLU8 BLU (io), GND8 GND (io), GRN8 GRN (io), RED8 RED (io), SIG16 SIG1 (io), SIG17 SIG2 (io)
part J pins: BLU9 BLU (io), GND9 GND (io), GRN9 GRN (io), RED9 RED (io), SIG18 SIG1 (io), SIG19 SIG2 (io)
part K pins: BLU10 BLU (io), GND10 GND (io), GRN10 GRN (io), RED10 RED (io), SIG20 SIG1 (io), SIG21 SIG2 (io)
part L pins: BLU11 BLU (io), GND11 GND (io), GRN11 GRN (io), RED11 RED (io), SIG22 SIG1 (io), SIG23 SIG2 (io)
part M pins: BLU12 BLU (io), GND12 GND (io), GRN12 GRN (io), RED12 RED (io), SIG24 SIG1 (io), SIG25 SIG2 (io)
part N pins: BLU13 BLU (io), GND13 GND (io), GRN13 GRN (io), RED13 RED (io), SIG26 SIG1 (io), SIG27 SIG2 (io)
part O pins: BLU14 BLU (io), GND14 GND (io), GRN14 GRN (io), RED14 RED (io), SIG28 SIG1 (io), SIG29 SIG2 (io)
part P pins: BLU15 BLU (io), GND15 GND (io), GRN15 GRN (io), RED15 RED (io), SIG30 SIG1 (io), SIG31 SIG2 (io)

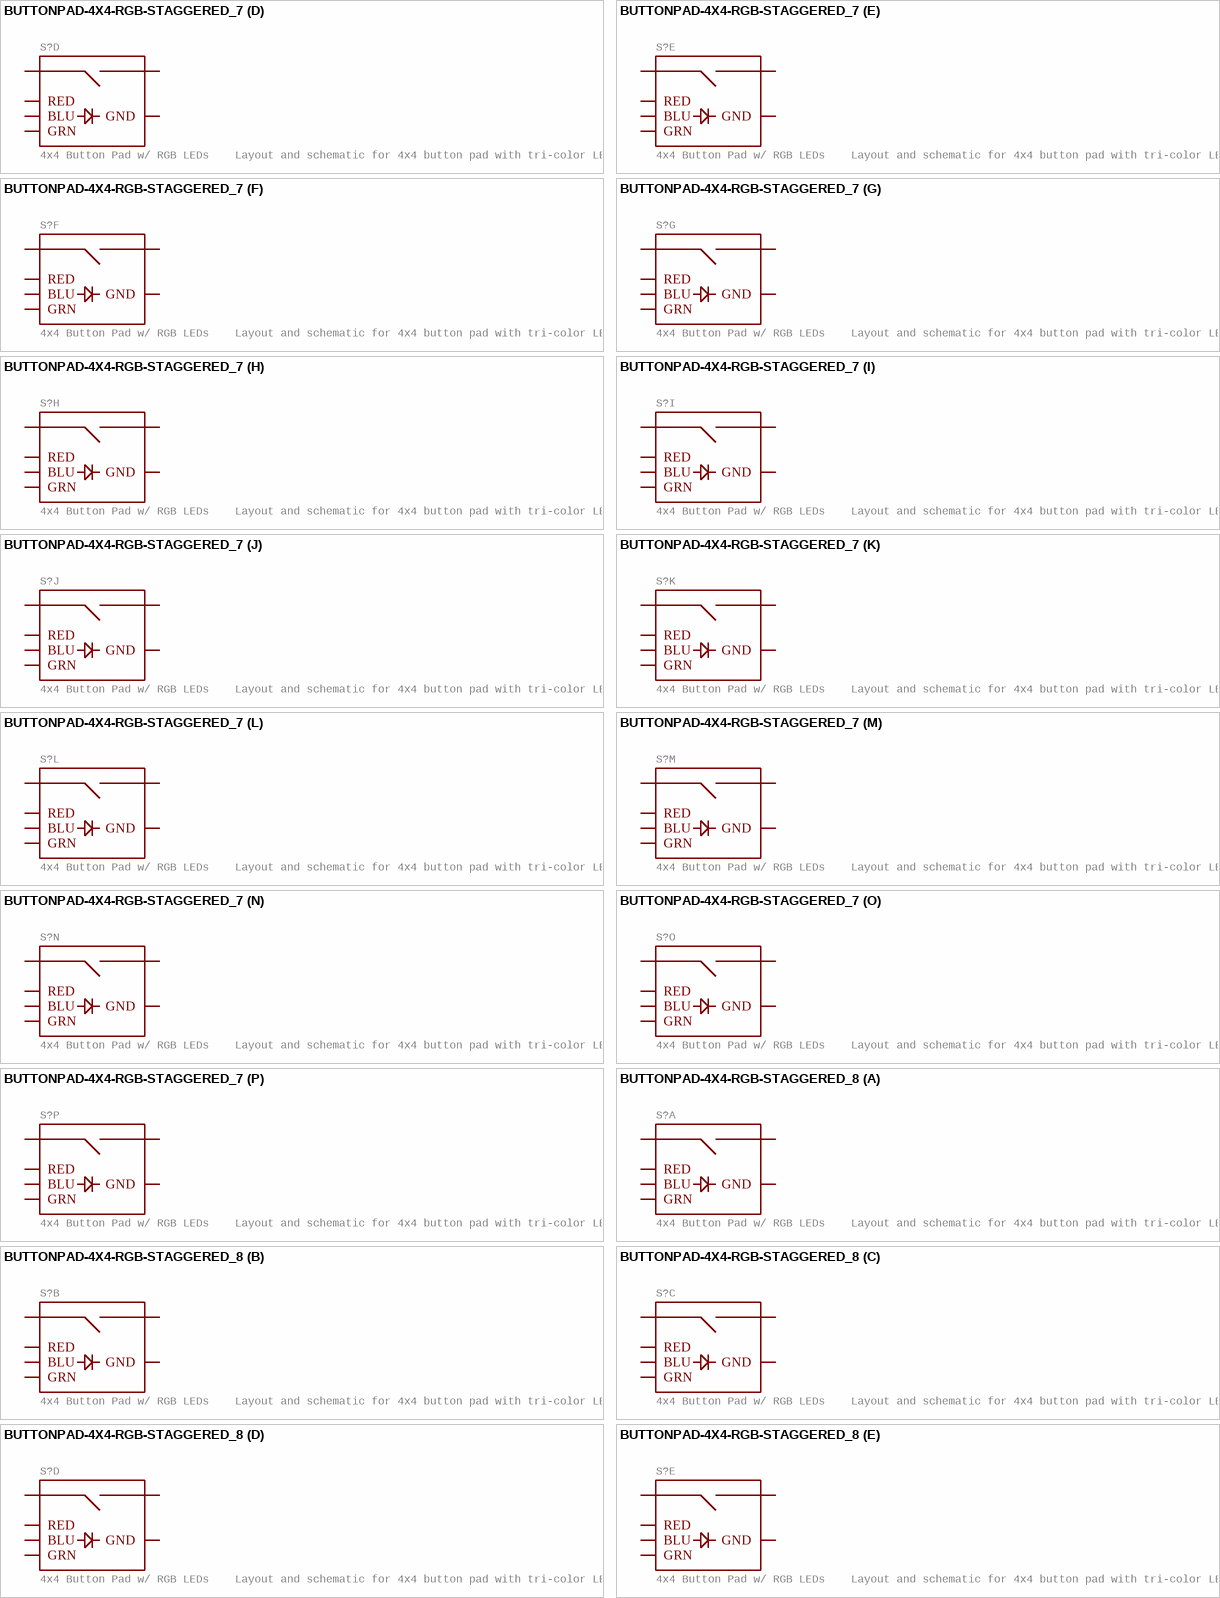
[diagram p11: symbols BUTTONPAD-4X4-RGB-STAGGERED_7 to BUTTONPAD-4X4-RGB-STAGGERED_8]

## BUTTONPAD-4X4-RGB-STAGGERED_7
designator S?, comment 4x4 Button Pad w/ RGB LEDs    Layout and schematic for 4x4 button pad with tri-color LEDs under each button. For use with the 4x Button Pad 2x2 - LED Compatible and 4x Button Pad 2x2 Top Bezel.   Any RGB 5mm LED should be compatible. SparkFun Products  SparkFun Simon Says - Through-Hole Soldering Kit (KIT-10547)  Button Pad 2x2 - Breakout PCB (COM-09277)
GateName_1: G$0; SymbolName_1: BUTTONPAD-RGB; GateName_2: G$1; GateName_3: G$2; GateName_4: G$3; GateName_5: G$4; GateName_6: G$5; GateName_7: G$6; GateName_8: G$7; GateName_9: G$8; GateName_10: G$9; GateName_11: G$10; GateName_12: G$11; GateName_13: G$12; GateName_14: G$13; GateName_15: G$14; GateName_16: G$15; DeviceName: -STAGGERED; DeviceSetName: BUTTONPAD-4X4-RGB; PROD_ID: COMP-08481; SF_SKU: COM-07836; SymbolName_2: BUTTONPAD-RGB; SymbolName_3: BUTTONPAD-RGB; SymbolName_4: BUTTONPAD-RGB; SymbolName_5: BUTTONPAD-RGB; SymbolName_6: BUTTONPAD-RGB; SymbolName_7: BUTTONPAD-RGB; SymbolName_8: BUTTONPAD-RGB; SymbolName_9: BUTTONPAD-RGB; SymbolName_10: BUTTONPAD-RGB; SymbolName_11: BUTTONPAD-RGB; SymbolName_12: BUTTONPAD-RGB; SymbolName_13: BUTTONPAD-RGB; SymbolName_14: BUTTONPAD-RGB; SymbolName_15: BUTTONPAD-RGB; SymbolName_16: BUTTONPAD-RGB; LibraryName: SparkFun-Switches; Package: BUTTONPAD-4X4-STAGGERED
footprint BUTTONPAD-4X4-STAGGERED
part A pins: BLU0 BLU (io), GND0 GND (io), GRN0 GRN (io), RED0 RED (io), SIG0 SIG1 (io), SIG1 SIG2 (io)
part B pins: BLU1 BLU (io), GND1 GND (io), GRN1 GRN (io), RED1 RED (io), SIG2 SIG1 (io), SIG3 SIG2 (io)
part C pins: BLU2 BLU (io), GND2 GND (io), GRN2 GRN (io), RED2 RED (io), SIG4 SIG1 (io), SIG5 SIG2 (io)
part D pins: BLU3 BLU (io), GND3 GND (io), GRN3 GRN (io), RED3 RED (io), SIG6 SIG1 (io), SIG7 SIG2 (io)
part E pins: BLU4 BLU (io), GND4 GND (io), GRN4 GRN (io), RED4 RED (io), SIG8 SIG1 (io), SIG9 SIG2 (io)
part F pins: BLU5 BLU (io), GND5 GND (io), GRN6 GRN (io), RED5 RED (io), SIG10 SIG1 (io), SIG11 SIG2 (io)
part G pins: BLU6 BLU (io), GND6 GND (io), GRN5 GRN (io), RED6 RED (io), SIG12 SIG1 (io), SIG13 SIG2 (io)
part H pins: BLU7 BLU (io), GND7 GND (io), GRN7 GRN (io), RED7 RED (io), SIG14 SIG1 (io), SIG15 SIG2 (io)
part I pins: BLU8 BLU (io), GND8 GND (io), GRN8 GRN (io), RED8 RED (io), SIG16 SIG1 (io), SIG17 SIG2 (io)
part J pins: BLU9 BLU (io), GND9 GND (io), GRN9 GRN (io), RED9 RED (io), SIG18 SIG1 (io), SIG19 SIG2 (io)
part K pins: BLU10 BLU (io), GND10 GND (io), GRN10 GRN (io), RED10 RED (io), SIG20 SIG1 (io), SIG21 SIG2 (io)
part L pins: BLU11 BLU (io), GND11 GND (io), GRN11 GRN (io), RED11 RED (io), SIG22 SIG1 (io), SIG23 SIG2 (io)
part M pins: BLU12 BLU (io), GND12 GND (io), GRN12 GRN (io), RED12 RED (io), SIG24 SIG1 (io), SIG25 SIG2 (io)
part N pins: BLU13 BLU (io), GND13 GND (io), GRN13 GRN (io), RED13 RED (io), SIG26 SIG1 (io), SIG27 SIG2 (io)
part O pins: BLU14 BLU (io), GND14 GND (io), GRN14 GRN (io), RED14 RED (io), SIG28 SIG1 (io), SIG29 SIG2 (io)
part P pins: BLU15 BLU (io), GND15 GND (io), GRN15 GRN (io), RED15 RED (io), SIG30 SIG1 (io), SIG31 SIG2 (io)

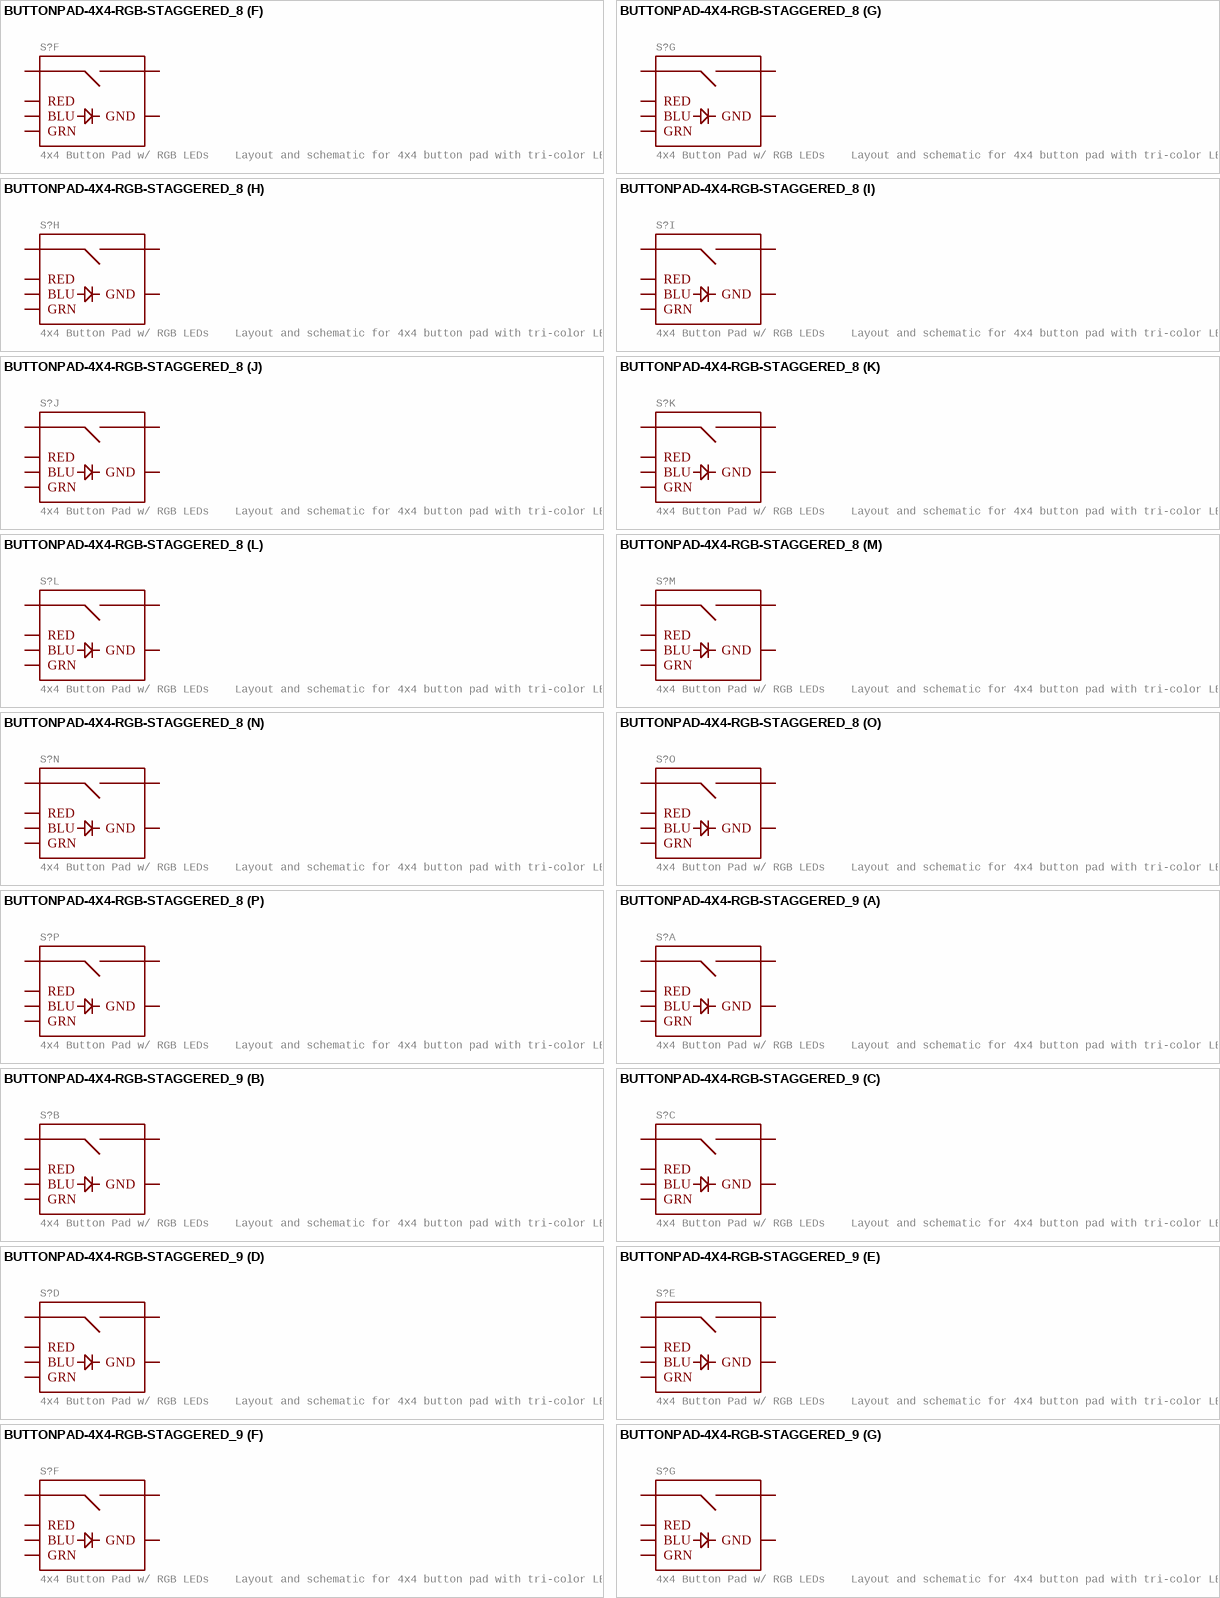
[diagram p12: symbols BUTTONPAD-4X4-RGB-STAGGERED_8 to BUTTONPAD-4X4-RGB-STAGGERED_9]